# Altium schematic symbol library Apalis Evaluation Board.SchLib: 275 symbols (part 1 of 2)
Pins are listed as number, name and electrical type; pins without a type are passive.

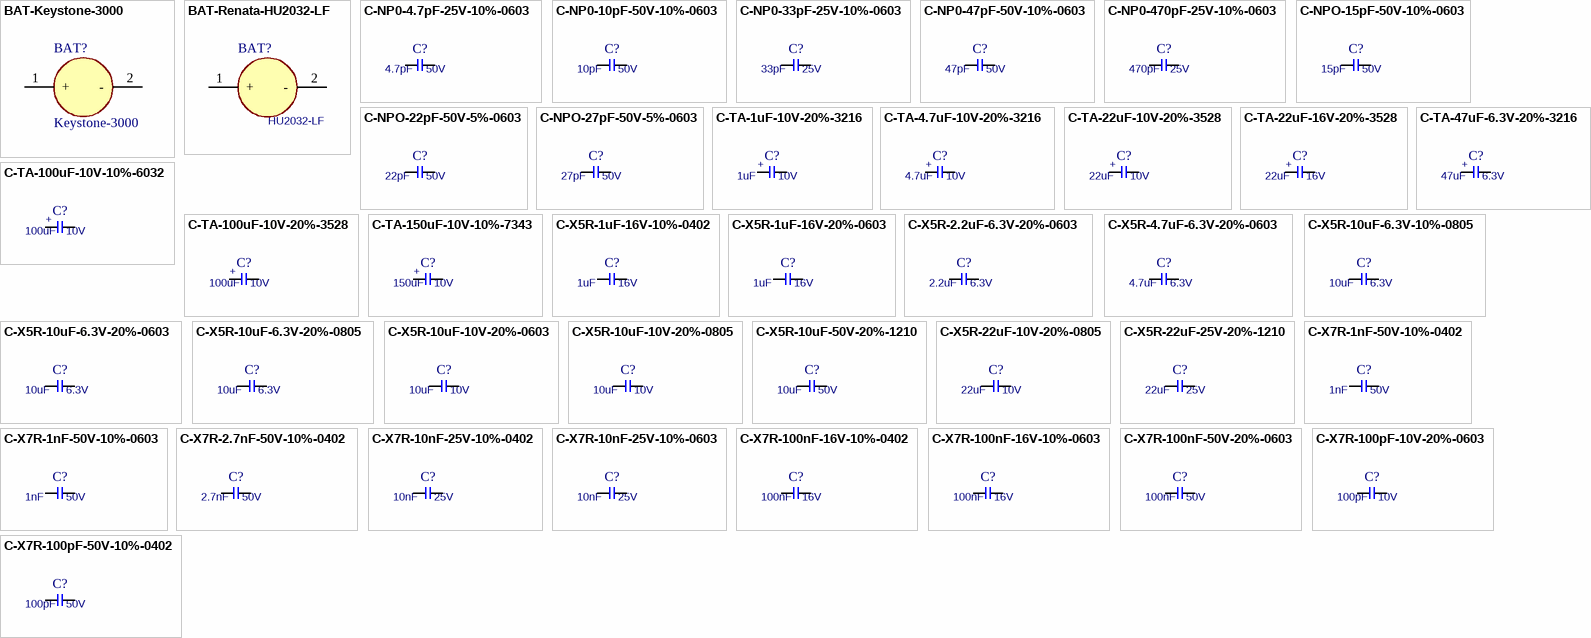
[diagram p0: symbols BAT-Keystone-3000 to C-X7R-100pF-50V-10%-0402]

## BAT-Keystone-3000
designator BAT?, comment Keystone-3000
Battery Holder; Manufacturer Part No.: 3000; Manufacturer Name: Keystone
footprint T_Keystone_3000 (Battery Holder)
pins: 1 +, 2 -

## BAT-Renata-HU2032-LF
designator BAT?, comment HU2032-LF
C2032 Battery Holder; Manufacturer Name: Renata; Manufacturer Part No.: HU2032-LF
footprint T_Renata_HU2032-LF (Battery Holder)
pins: 1 +, 2 -

## C-NP0-4.7pF-25V-10%-0603
designator C?, comment Rating: 50V  (hidden comment: 4.7pF)
Capacitor Ceramic NP0  4.7pF 25V 10% 0603; Tolerance: 10%; Type: NP0; Value: 4.7pF
footprint T_CAPC0603X33N
pins: 1, 2

## C-NP0-10pF-50V-10%-0603
designator C?, comment Rating: 50V  (hidden comment: 10pF)
Capacitor Ceramic NP0 10pF 50V 10% 0603; Tolerance: 10%; Type: NP0; Value: 10pF
footprint T_CAPC0603X33N
pins: 1, 2

## C-NP0-33pF-25V-10%-0603
designator C?, comment Rating: 25V  (hidden comment: 33pF)
Capacitor Ceramic NP0 33pF 25V 10% 0603; Tolerance: 10%; Type: NP0; Value: 33pF
footprint T_CAPC0603X33N
pins: 1, 2

## C-NP0-47pF-50V-10%-0603
designator C?, comment Rating: 50V  (hidden comment: 47pF)
Capacitor Ceramic NP0 47pF 50V 10% 0603; Tolerance: 10%; Type: NP0; Value: 47pF
footprint T_CAPC0603X33N
pins: 1, 2

## C-NP0-470pF-25V-10%-0603
designator C?, comment Rating: 25V  (hidden comment: 470pF)
Capacitor Ceramic NP0 470pF 25V 10% 0603; Tolerance: 10%; Type: NP0; Value: 470pF
footprint T_CAPC0603X33N
pins: 1, 2

## C-NPO-15pF-50V-10%-0603
designator C?, comment Rating: 50V  (hidden comment: 15pF)
Capacitor Ceramic NPO 15pF 50V 10% 0603; Tolerance: 10%; Type: NPO; Value: 15pF
footprint T_CAPC0603X33N
pins: 1, 2

## C-NPO-22pF-50V-5%-0603
designator C?, comment Rating: 50V  (hidden comment: 22pF)
Capacitor Ceramic NPO 22pF 50V 5% 0603; Tolerance: 5%; Type: NPO; Value: 22pF
footprint T_CAPC0603X33N
pins: 1, 2

## C-NPO-27pF-50V-5%-0603
designator C?, comment Rating: 50V  (hidden comment: 27pF)
Capacitor Ceramic NPO 27pF 50V 5% 0603; Tolerance: 5%; Type: NPO; Value: 27pF
footprint T_CAPC0603X33N
pins: 1, 2

## C-TA-1uF-10V-20%-3216
designator C?, comment Rating: 10V  (hidden comment: 1uF)
Capacitor TA 1uF 10V 20% 3216; Tolerance: 20%; Type: TA; Value: 1uF
footprint T_CAPMP3216X180N
pins: 1, 2
text: +

## C-TA-4.7uF-10V-20%-3216
designator C?, comment Rating: 10V  (hidden comment: 4.7uF)
Capacitor TA 4.7uF 10V 20% 3216; Tolerance: 20%; Type: TA; Value: 4.7uF
footprint T_CAPMP3216X180N
pins: 1, 2
text: +

## C-TA-22uF-10V-20%-3528
designator C?, comment Rating: 10V  (hidden comment: 22uF)
Capacitor TA 22uF 10V 20% 3528; Tolerance: 20%; Type: TA; Value: 22uF
footprint CAPMP3528X210N
pins: 1, 2
text: +

## C-TA-22uF-16V-20%-3528
designator C?, comment Rating: 16V  (hidden comment: 22uF)
Capacitor TA 22uF 16V 20% 3528; Tolerance: 20%; Type: TA; Value: 22uF
footprint CAPMP3528X210N
pins: 1, 2
text: +

## C-TA-47uF-6.3V-20%-3216
designator C?, comment Rating: 6.3V  (hidden comment: 47uF)
Capacitor TA 47uF 6.3V 20% 3216; Tolerance: 20%; Type: TA; Value: 47uF
footprint T_CAPMP3216X180N
pins: 1, 2
text: +

## C-TA-100uF-10V-10%-6032
designator C?, comment Rating: 10V  (hidden comment: 100uF)
Capacitor TA 100uF 10V 10% 6032; Tolerance: 10%; Type: TA; Value: 100uF
footprint CAPMP6032X280N (Cap Polarized 6032)
pins: 1, 2
text: +

## C-TA-100uF-10V-20%-3528
designator C?, comment Rating: 10V  (hidden comment: 100uF)
Capacitor TA 100uF 10V 20% 3528; Tolerance: 20%; Type: TA; Value: 100uF
footprint CAPMP3528X210N
pins: 1, 2
text: +

## C-TA-150uF-10V-10%-7343
designator C?, comment Rating: 10V  (hidden comment: 150uF)
Capacitor TA 150uF 10V 10% 7343; Tolerance: 10%; Type: TA; Value: 150uF
footprint CAPMP7343X310N
pins: 1, 2
text: +

## C-X5R-1uF-16V-10%-0402
designator C?, comment Rating: 16V  (hidden comment: 1uF)
Capacitor Ceramic X5R 1uF 16V 10% 0402; Tolerance: 10%; Type: X5R; Value: 1uF
footprint CAPC1005X60N
pins: 1, 2

## C-X5R-1uF-16V-20%-0603
designator C?, comment Rating: 16V  (hidden comment: 1uF)
Capacitor Ceramic X5R 1uF 16V 20% 0603; Tolerance: 20%; Type: X5R; Value: 1uF
footprint T_CAPC0603X33N
pins: 1, 2

## C-X5R-2.2uF-6.3V-20%-0603
designator C?, comment Rating: 6.3V  (hidden comment: 2.2uF)
Capacitor Ceramic X5R 2.2uF 6.3V 20% 0603; Tolerance: 20%; Type: X5R; Value: 2.2uF
footprint T_CAPC0603X33N
pins: 1, 2

## C-X5R-4.7uF-6.3V-20%-0603
designator C?, comment Rating: 6.3V  (hidden comment: 4.7uF)
Capacitor Ceramic X5R 4.7uF 6.3V 20% 0603; Tolerance: 20%; Type: X5R; Value: 4.7uF
footprint T_CAPC0603X33N
pins: 1, 2

## C-X5R-10uF-6.3V-10%-0805
designator C?, comment Rating: 6.3V  (hidden comment: 10uF)
Capacitor Ceramic X5R 10uF 6.3V 10% 0805; Tolerance: 10%; Type: X5R; Value: 10uF
footprint T_CAPC0805X125N
pins: 1, 2

## C-X5R-10uF-6.3V-20%-0603
designator C?, comment Rating: 6.3V  (hidden comment: 10uF)
Capacitor Ceramic X5R 10uF 6.3V 20% 0603; Tolerance: 20%; Type: X5R; Value: 10uF
footprint T_CAPC0603X33N
pins: 1, 2

## C-X5R-10uF-6.3V-20%-0805
designator C?, comment Rating: 6.3V  (hidden comment: 10uF)
Capacitor Ceramic X5R 10uF 6.3V 20% 0805; Tolerance: 20%; Type: X5R; Value: 10uF
footprint T_CAPC0805X125N
pins: 1, 2

## C-X5R-10uF-10V-20%-0603
designator C?, comment Rating: 10V  (hidden comment: 10uF)
Capacitor Ceramic X5R 10uF 10V 20% 0603; Tolerance: 20%; Type: X5R; Value: 10uF
footprint T_CAPC0603X33N
pins: 1, 2

## C-X5R-10uF-10V-20%-0805
designator C?, comment Rating: 10V  (hidden comment: 10uF)
Capacitor Ceramic X5R 10uF 10V 20% 0805; Tolerance: 20%; Type: X5R; Value: 10uF
footprint T_CAPC0805X125N
pins: 1, 2

## C-X5R-10uF-50V-20%-1210
designator C?, comment Rating: 50V  (hidden comment: 10uF)
Capacitor Ceramic X5R 10uF 50V 20% 1210; Tolerance: 20%; Type: X5R; Value: 10uF
footprint CAPC3225X160N
pins: 1, 2

## C-X5R-22uF-10V-20%-0805
designator C?, comment Rating: 10V  (hidden comment: 22uF)
Capacitor Ceramic X5R 22uF 10V 20% 0805; Tolerance: 20%; Type: X5R; Value: 22uF
footprint T_CAPC0805X125N
pins: 1, 2

## C-X5R-22uF-25V-20%-1210
designator C?, comment Rating: 25V  (hidden comment: 22uF)
Capacitor Ceramic X5R 22uF 25V 20% 1210; Tolerance: 20%; Type: X5R; Value: 22uF
footprint CAPC3225X160N
pins: 1, 2

## C-X7R-1nF-50V-10%-0402
designator C?, comment Rating: 50V  (hidden comment: 1nF)
Capacitor Ceramic X7R 1nF 50V 10% 0402; Tolerance: 10%; Type: X7R; Value: 1nF
footprint CAPC1005X60N
pins: 1, 2

## C-X7R-1nF-50V-10%-0603
designator C?, comment Rating: 50V  (hidden comment: 1nF)
Capacitor Ceramic X7R 1nF 50V 10% 0603; Tolerance: 10%; Type: X7R; Value: 1nF
footprint T_CAPC0603X33N
pins: 1, 2

## C-X7R-2.7nF-50V-10%-0402
designator C?, comment Rating: 50V  (hidden comment: 2.7nF)
Capacitor Ceramic X7R 2.7nF 50V 10% 0402; Tolerance: 10%; Type: X7R; Value: 2.7nF
footprint CAPC1005X60N
pins: 1, 2

## C-X7R-10nF-25V-10%-0402
designator C?, comment Rating: 25V  (hidden comment: 10nF)
Capacitor Ceramic X7R 10nF 25V 10% 0402; Tolerance: 10%; Type: X7R; Value: 10nF
footprint CAPC1005X60N
pins: 1, 2

## C-X7R-10nF-25V-10%-0603
designator C?, comment Rating: 25V  (hidden comment: 10nF)
Capacitor Ceramic X7R 10nF 25V 10% 0603; Tolerance: 10%; Type: X7R; Value: 10nF
footprint T_CAPC0603X33N
pins: 1, 2

## C-X7R-100nF-16V-10%-0402
designator C?, comment Rating: 16V  (hidden comment: 100nF)
Capacitor Ceramic X7R 100nF 16V 10% 0402; Tolerance: 10%; Type: X7R; Value: 100nF
footprint CAPC1005X60N
pins: 1, 2

## C-X7R-100nF-16V-10%-0603
designator C?, comment Rating: 16V  (hidden comment: 100nF)
Capacitor Ceramic X7R 100nF 16V 10% 0603; Tolerance: 10%; Type: X7R; Value: 100nF
footprint T_CAPC0603X33N
pins: 1, 2

## C-X7R-100nF-50V-20%-0603
designator C?, comment Rating: 50V  (hidden comment: 100nF)
Capacitor Ceramic X7R 100nF 50V 20% 0603; Tolerance: 20%; Type: X7R; Value: 100nF
footprint T_CAPC0603X33N
pins: 1, 2

## C-X7R-100pF-10V-20%-0603
designator C?, comment Rating: 10V  (hidden comment: 100pF)
Capacitor Ceramic X7R 100pF 10V 20% 0603; Tolerance: 20%; Type: X7R; Value: 100pF
footprint T_CAPC0603X33N
pins: 1, 2

## C-X7R-100pF-50V-10%-0402
designator C?, comment Rating: 50V  (hidden comment: 100pF)
Capacitor Ceramic X7R 100pF 50V 10% 0402; Tolerance: 10%; Type: X7R; Value: 100pF
footprint CAPC1005X60N
pins: 1, 2

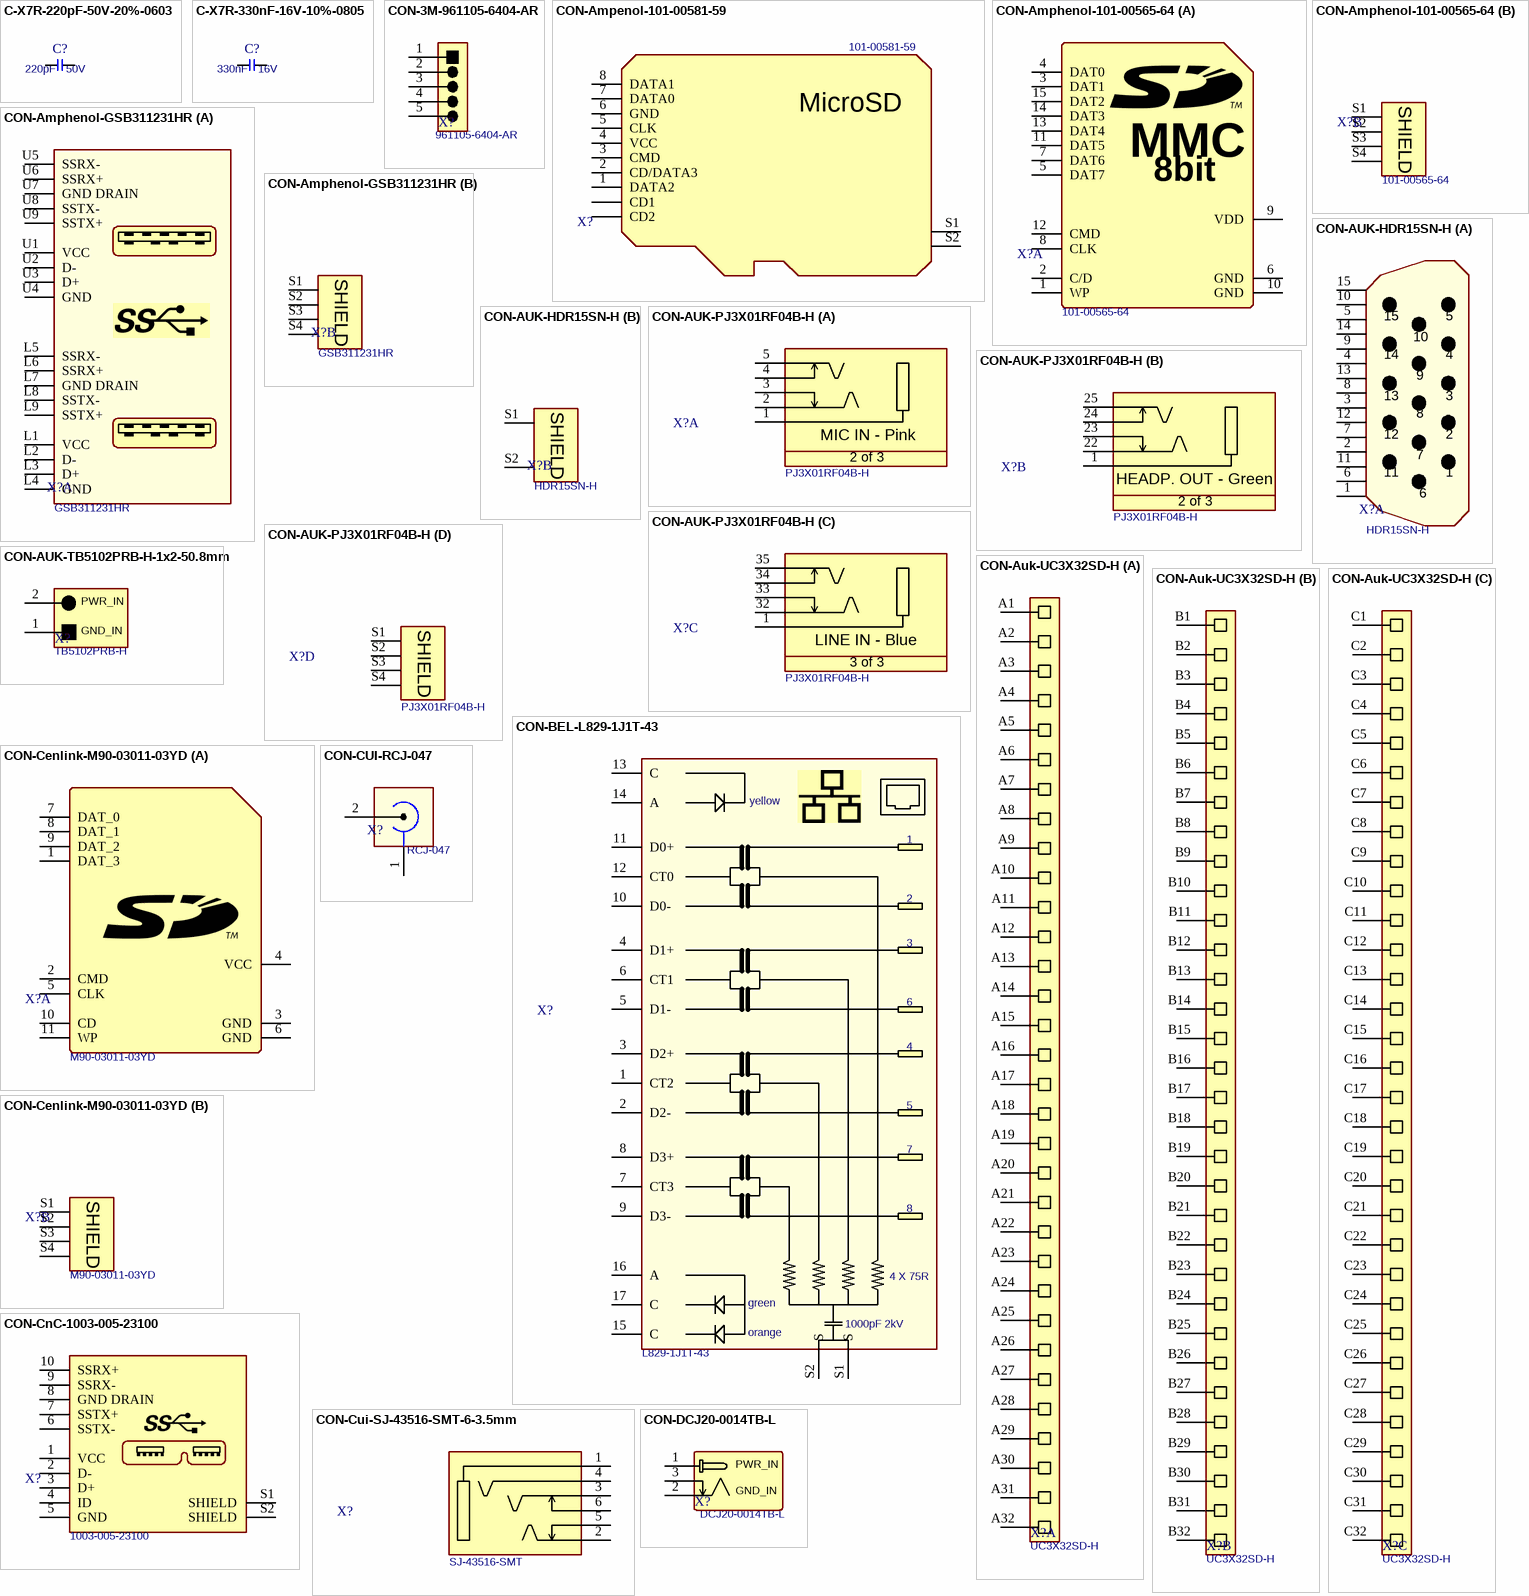
[diagram p1: symbols C-X7R-220pF-50V-20%-0603 to CON-DCJ20-0014TB-L]

## C-X7R-220pF-50V-20%-0603
designator C?, comment Rating: 50V  (hidden comment: 220pF)
Capacitor Ceramic X7R 220pF 50V 20% 0603; Tolerance: 20%; Type: X7R; Value: 220pF
footprint T_CAPC0603X33N
pins: 1, 2

## C-X7R-330nF-16V-10%-0805
designator C?, comment Rating: 16V  (hidden comment: 330nF)
Capacitor Ceramic X7R 330nF 16V 10% 0805; Tolerance: 10%; Type: X7R; Value: 330nF
footprint T_CAPC0805X125N
pins: 1, 2

## CON-3M-961105-6404-AR
designator X?, comment 961105-6404-AR
Audio Header 5 pins 2.54mm; Manufacturer Name: 3M; No. of ways: 1X5; Pitch: 2.54mm; Manufacturer Part No.: 961105-6404-AR
footprint T_3M_961105-6404-AR (Connector; Header; 35 Position)
pins: 1, 2, 3, 4, 5

## CON-Ampenol-101-00581-59
designator X?, comment Manufacturer Part No.: 101-00581-59  (hidden comment: MicroSD Holder)
Micro SD Holder Push Push CD; Manufacturer Name: Ampenol; No. of ways: 9
footprint T_Ampenol_101-00581-59 (MicroSD Holder top-loading type)
pins: 1 DATA2 (power), 2 CD/DATA3, 3 CMD, 4 VCC, 5 CLK (power), 6 GND (power), 7 DATA0 (power), 8 DATA1 (power), CD1 (power), CD2 (power), S1 S, S2 S
text: MicroSD

## CON-Amphenol-101-00565-64
designator X?, comment 101-00565-64
SD/MMC 8bit Card Holder; Manufacturer Name: Amphenol; No. of ways: 13+2; Manufacturer Part No.: 101-00565-64
footprint T_ AMPHENOL_101-00565 (SD/MMC 8bit Card Holder)
part A pins: 1 WP, 2 C/D, 3 DAT1, 4 DAT0, 5 DAT7, 6 GND, 7 DAT6, 8 CLK, 9 VDD, 10 GND, 11 DAT5, 12 CMD, 13 DAT4, 14 DAT3, 15 DAT2
part B pins: S1 S, S2 S, S3 S, S4 S
part A text: MMC; 8bit
part B text: SHIELD

## CON-Amphenol-GSB311231HR
designator X?, comment GSB311231HR
USB 3.0 double row, Type A; Manufacturer Name: Amphenol; No. of ways: 18; Manufacturer Part No.: GSB311231HR
footprint T_AMPHENOL_ GSB311231HR (USB 3.0 double row, Type A)
part A pins: L1 VCC (power), L2 D-, L3 D+, L4 GND (power), L5 SSRX- (power), L6 SSRX+ (power), L7 GND DRAIN (power), L8 SSTX- (power), L9 SSTX+ (power), U1 VCC (power), U2 D-, U3 D+, U4 GND (power), U5 SSRX- (power), U6 SSRX+ (power), U7 GND DRAIN (power), U8 SSTX- (power), U9 SSTX+ (power)
part B pins: S1 SHIELD, S2 SHIELD, S3 SHIELD, S4 SHIELD

## CON-AUK-HDR15SN-H
designator X?, comment HDR15SN-H
15 pin male D-SUB connector; Manufacturer Name: AUK; No. of ways: 15; Manufacturer Part No.: HDR15SN-H
footprint T_AUK_HDR15SN-H (15 pin male D-SUB connector)
part A pins: 1 DCD, 2 RXD, 3 TXD, 4 DTR, 5 GND, 6 DSR, 7 RTS, 8 CTS, 9 RI, 10 RI, 11 RI, 12 RI, 13 RI, 14 RI, 15 RI
part B pins: S1 SHIELD, S2 SHIELD

## CON-AUK-PJ3X01RF04B-H
designator X?, comment Manufacturer Part No.: PJ3X01RF04B-H  (hidden comment: AUK-PJ3X01RF04B-H)
3x Audiojack stereo, 3.5mm; Manufacturer Name: AUK; No. of ways: 13
footprint T_AUK_PJ3X01RF04B-H (Audio Jack Triple Stacked DIP Type)
part A pins: 1, 2, 3, 4, 5
part B pins: 1, 22, 23, 24, 25
part C pins: 1, 32, 33, 34, 35
part D pins: S1 SHIELD, S2 SHIELD, S3 SHIELD, S4 SHIELD
part A text: MIC IN - Pink; 2 of 3
part B text: HEADP. OUT - Green; 2 of 3
part C text: LINE IN - Blue; 3 of 3

## CON-AUK-TB5102PRB-H-1x2-50.8mm
designator X?, comment TB5102PRB-H
Power Connector; Manufacturer Name: AUK; No. of ways: 1x2; Pitch: 5.08mm; Manufacturer Part No.: TB5102PRB-H
footprint T_AUK_TB5102PRB-H (Power Connector 5.08mm pitch)
pins: 1 GND_IN, 2 PWR_IN

## CON-Auk-UC3X32SD-H
designator X?, comment UC3X32SD-H
Header Female 3x32 pin 2.54mm; Manufacturer Name: Auk; Pitch: 2.54mm; No. of ways: 3x32; Manufacturer Part No.: UC3X32SD-H
footprint T_AUK_UC3X32SD-H (Header, 3x32 Pins, 2.54 mm pitch)
part A pins: A1, A2, A3, A4, A5, A6, A7, A8, A9, A10, A11, A12, A13, A14, A15, A16, A17, A18, A19, A20, A21, A22, A23, A24, A25, A26, A27, A28, A29, A30, A31, A32
part B pins: B1, B2, B3, B4, B5, B6, B7, B8, B9, B10, B11, B12, B13, B14, B15, B16, B17, B18, B19, B20, B21, B22, B23, B24, B25, B26, B27, B28, B29, B30, B31, B32
part C pins: C1, C2, C3, C4, C5, C6, C7, C8, C9, C10, C11, C12, C13, C14, C15, C16, C17, C18, C19, C20, C21, C22, C23, C24, C25, C26, C27, C28, C29, C30, C31, C32

## CON-BEL-L829-1J1T-43
designator X?, comment L829-1J1T-43
Low profile 10/100/1G Mag Jack; Manufacturer Name: BEL; Manufacturer Part No.: L829-1J1T-43
footprint T_BEL_L829-1J1T-43 (LOW PROFILE GIGABIT ETHERNET JACK WITH MAGS)
3D model l829-1j1t-43 (PCB3D Model)
pins: 1 CT2, 2 D2-, 3 D2+, 4 D1+, 5 D1-, 6 CT1, 7 CT3, 8 D3+, 9 D3-, 10 D0-, 11 D0+, 12 CT0, 13 C, 14 A, 15 C, 16 A, 17 C, S1 S, S2 S
text: yellow; 4 X 75R; green; 1000pF 2kV; orange

## CON-Cenlink-M90-03011-03YD
designator X?, comment M90-03011-03YD
SD/MMC Card Holder; Manufacturer Name: Cenlink; No. of ways: 9+2; Manufacturer Part No.: M90-03011-03YD
footprint T_ AMPHENOL_101-00708-64 (SD/MMC Card Holder)
part A pins: 1 DAT_3 (power), 2 CMD, 3 GND, 4 VCC, 5 CLK (power), 6 GND (power), 7 DAT_0 (power), 8 DAT_1 (power), 9 DAT_2 (power), 10 CD (power), 11 WP (power)
part B pins: S1 S, S2 S, S3 S, S4 S
part B text: SHIELD

## CON-CnC-1003-005-23100
designator X?, comment 1003-005-23100
Micro USB AB 3.0 Connector; Manufacturer Name: CnC Tech.; No. of ways: 10; Manufacturer Part No.: 1003-005-23100
footprint T_Cnc_1003-005-23100 (USB Micro A/B 3.0)
pins: 1 VCC (power), 2 D-, 3 D+, 4 ID, 5 GND (power), 6 SSTX- (power), 7 SSTX+ (power), 8 GND DRAIN (power), 9 SSRX- (power), 10 SSRX+ (power), S1 SHIELD (power), S2 SHIELD (power)

## CON-CUI-RCJ-047
designator X?, comment RCJ-047
THT RCA Right Angle Connector Orange; Manufacturer: CUI; Manufacturer Part No.: RCJ-047
footprint T_CUI_RCJ-04x (Right Angle RCA Connector THT)
pins: 1 SIGNAL, 2

## CON-Cui-SJ-43516-SMT-6-3.5mm
designator X?, comment SJ-43516-SMT
3.5mm Stereo Jack SMD With Detect Contact; Manufacturer Name: Cui INC; No. of ways: 6; Manufacturer Part No.: SJ-43516-SMT
footprint T_CI_SJ-43516-SMT (STEREO_3.5mm AUDIO JACK  CUI)
pins: 1, 2, 3, 4, 5, 6

## CON-DCJ20-0014TB-L
designator X?, comment DCJ20-0014TB-L
Power Jack; Manufacturer Part No.: DCJ20-0014TB-L
footprint T_DCJ20-0014TB-L (Header, 1x2 Pins, 2.54 mm pitch, male)
pins: 1 GND_IN, 2 PWR_IN, 3 PWR_IN

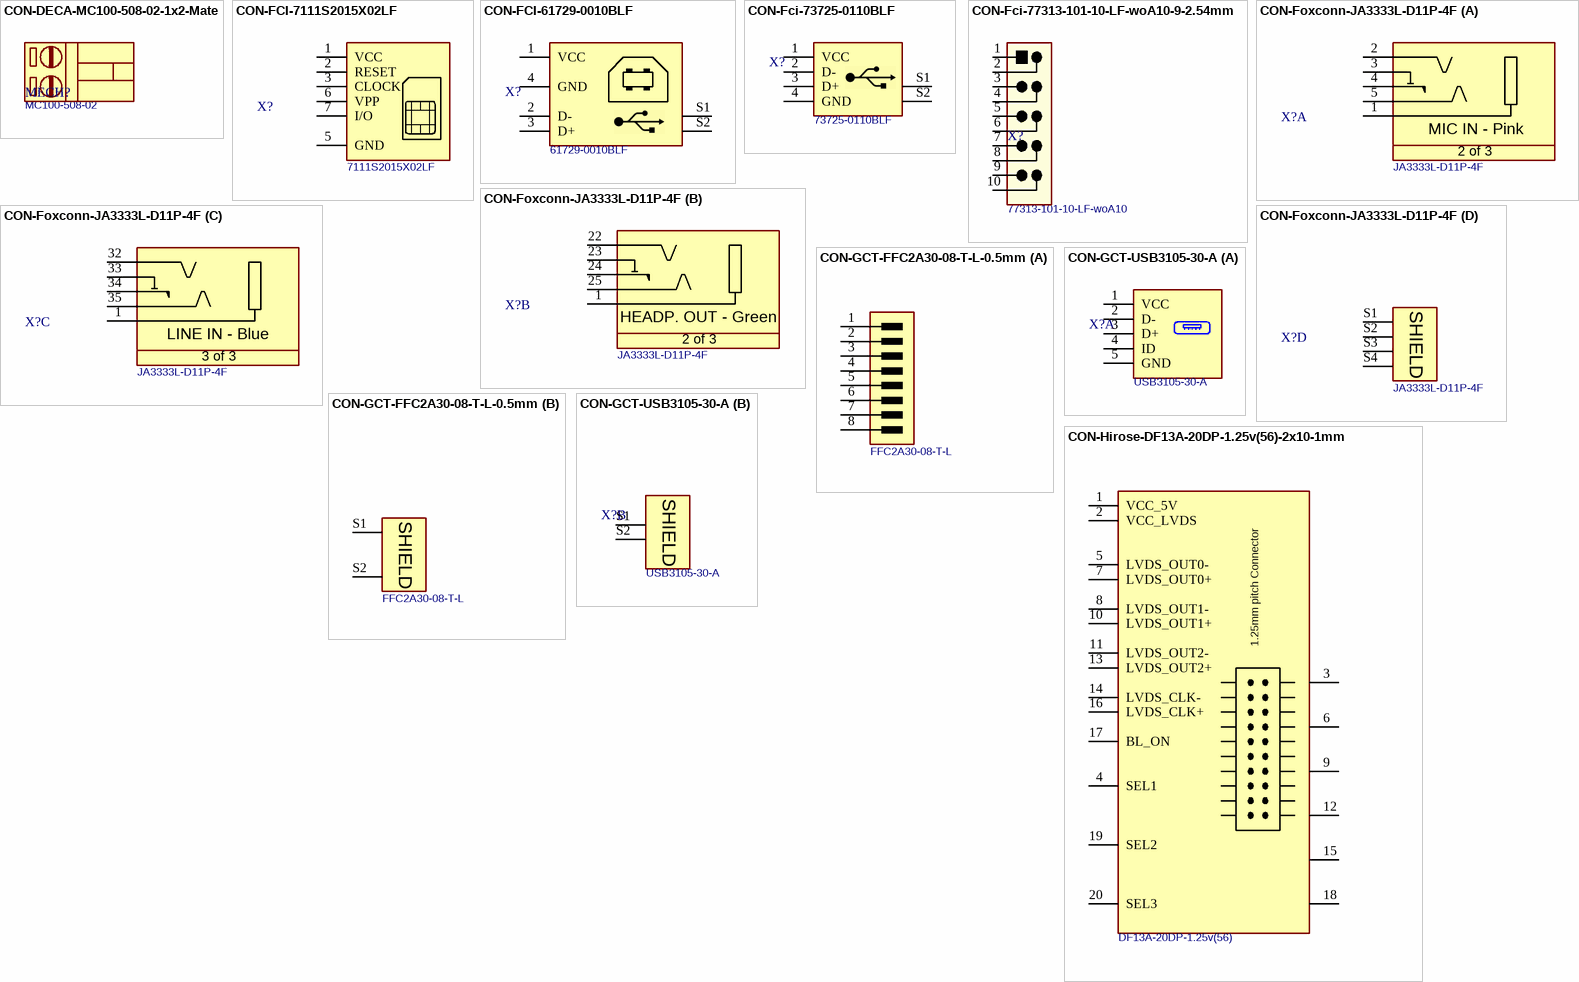
[diagram p2: symbols CON-DECA-MC100-508-02-1x2-Mate to CON-Hirose-DF13A-20DP-1.25v(56)-2x10-1mm]

## CON-DECA-MC100-508-02-1x2-Mate
designator MECH?, comment MC100-508-02
Power Connector Mate; Manufacturer Name: DECA Switchlab; No. of ways: 1x2; Pitch: 5.08mm; Manufacturer Part No.: MC100-508-02

## CON-FCI-7111S2015X02LF
designator X?, comment 7111S2015X02LF
6 Contacts Sim Card Holder; Manufacturer Name: FCI; Part No.: 7111S2015X02LF
footprint T_FCI_7111S2015X02LF (Footprint not found)
pins: 1 VCC, 2 RESET, 3 CLOCK, 5 GND, 6 VPP, 7 I/O

## CON-FCI-61729-0010BLF
designator X?, comment 61729-0010BLF
USB Type B Connector; Manufacturer Name: FCI; No. of ways: 4; Manufacturer Part No.: 61729-0010BLF
footprint T_FCI_61729-0010BLF (USB Type B Connectors)
pins: 1 VCC (power), 2 D-, 3 D+, 4 GND (power), S1, S2

## CON-Fci-73725-0110BLF
designator X?  Manufacturer Part No.: 73725-0110BLF
USB Type A Connector; Manufacturer Name: FCI; No. of ways: 4
footprint T_FCI_73725-0110BLF (USB Type A Connector Vertical)
pins: 1 VCC (power), 2 D-, 3 D+, 4 GND (power), S1, S2

## CON-Fci-77313-101-10-LF-woA10-9-2.54mm
designator X?, comment 77313-101-10-LF-woA10
RS232 Header; Manufacturer Name: FCI; No. of ways: 9; Manufacturer Part No.: 77313-101-10-LF-woA10
footprint T_FCI_77313-101-10-LF-woA10 (2.54 mm header)
pins: 1, 2, 3, 4, 5, 6, 7, 8, 9, 10

## CON-Foxconn-JA3333L-D11P-4F
designator X?, comment JA3333L-D11P-4F
3x Audiojack stereo, 3.5mm with sense; Manufacturer Name: Foxconn; No. of ways: 13; Manufacturer Part No.: JA3333L-D11P-4F
footprint T_FOXCONN_JA3333L-D11P-4F (Audio Jack Triple Stacked DIP Type With Sense)
part A pins: 1, 2, 3, 4, 5
part B pins: 1, 22, 23, 24, 25
part C pins: 1, 32, 33, 34, 35
part D pins: S1 SHIELD, S2 SHIELD, S3 SHIELD, S4 SHIELD
part A text: MIC IN - Pink; 2 of 3
part B text: HEADP. OUT - Green; 2 of 3
part C text: LINE IN - Blue; 3 of 3

## CON-GCT-FFC2A30-08-T-L-0.5mm
designator X?, comment FFC2A30-08-T-L
0.50mm Pitch FFC/FPC JTAG Connector Vertical; Manufacturer Name: GCT; No. of ways: 8; Pitch: 0.5mm; Manufacturer Part No.: FFC2A30-08-T-L
footprint T_GCT_FFC2A30-08-T-L (JTAG FFC Connector 0.5mm pitch vertical)
part A pins: 1, 2, 3, 4, 5, 6, 7, 8
part B pins: S1 SHIELD, S2 SHIELD

## CON-GCT-USB3105-30-A
designator X?  Manufacturer Part No.: USB3105-30-A
Micro USB OTG Connector - TH - Vertical; Manufacturer Name: GCT; No. of ways: 5
footprint T_GCT_USB3105-30-A (Micro USB Connector Vertical)
part A pins: 1 VCC (power), 2 D-, 3 D+, 4 ID, 5 GND (power)
part B pins: S1 SHIELD, S2 SHIELD

## CON-Hirose-DF13A-20DP-1.25v(56)-2x10-1mm
designator X?  Manufacturer Part No.: DF13A-20DP-1.25v(56)  (hidden comment: CON-Hirose-DF13A-20DP-1.25v(56)-2x10-1mm)
LVDS Connector; Manufacturer Name: Hirose; No. of ways: 2x10; Pitch: 1mm
footprint T_HIROSE_DF13A-20DP-1.25V(56)
pins: 1 VCC_5V, 2 VCC_LVDS, 3 GND, 4 SEL1, 5 LVDS_OUT0-, 6 GND, 7 LVDS_OUT0+, 8 LVDS_OUT1-, 9 GND, 10 LVDS_OUT1+, 11 LVDS_OUT2-, 12 GND, 13 LVDS_OUT2+, 14 LVDS_CLK-, 15 GND, 16 LVDS_CLK+, 17 BL_ON, 18 GND, 19 SEL2, 20 SEL3
text: 1.25mm pitch Connector

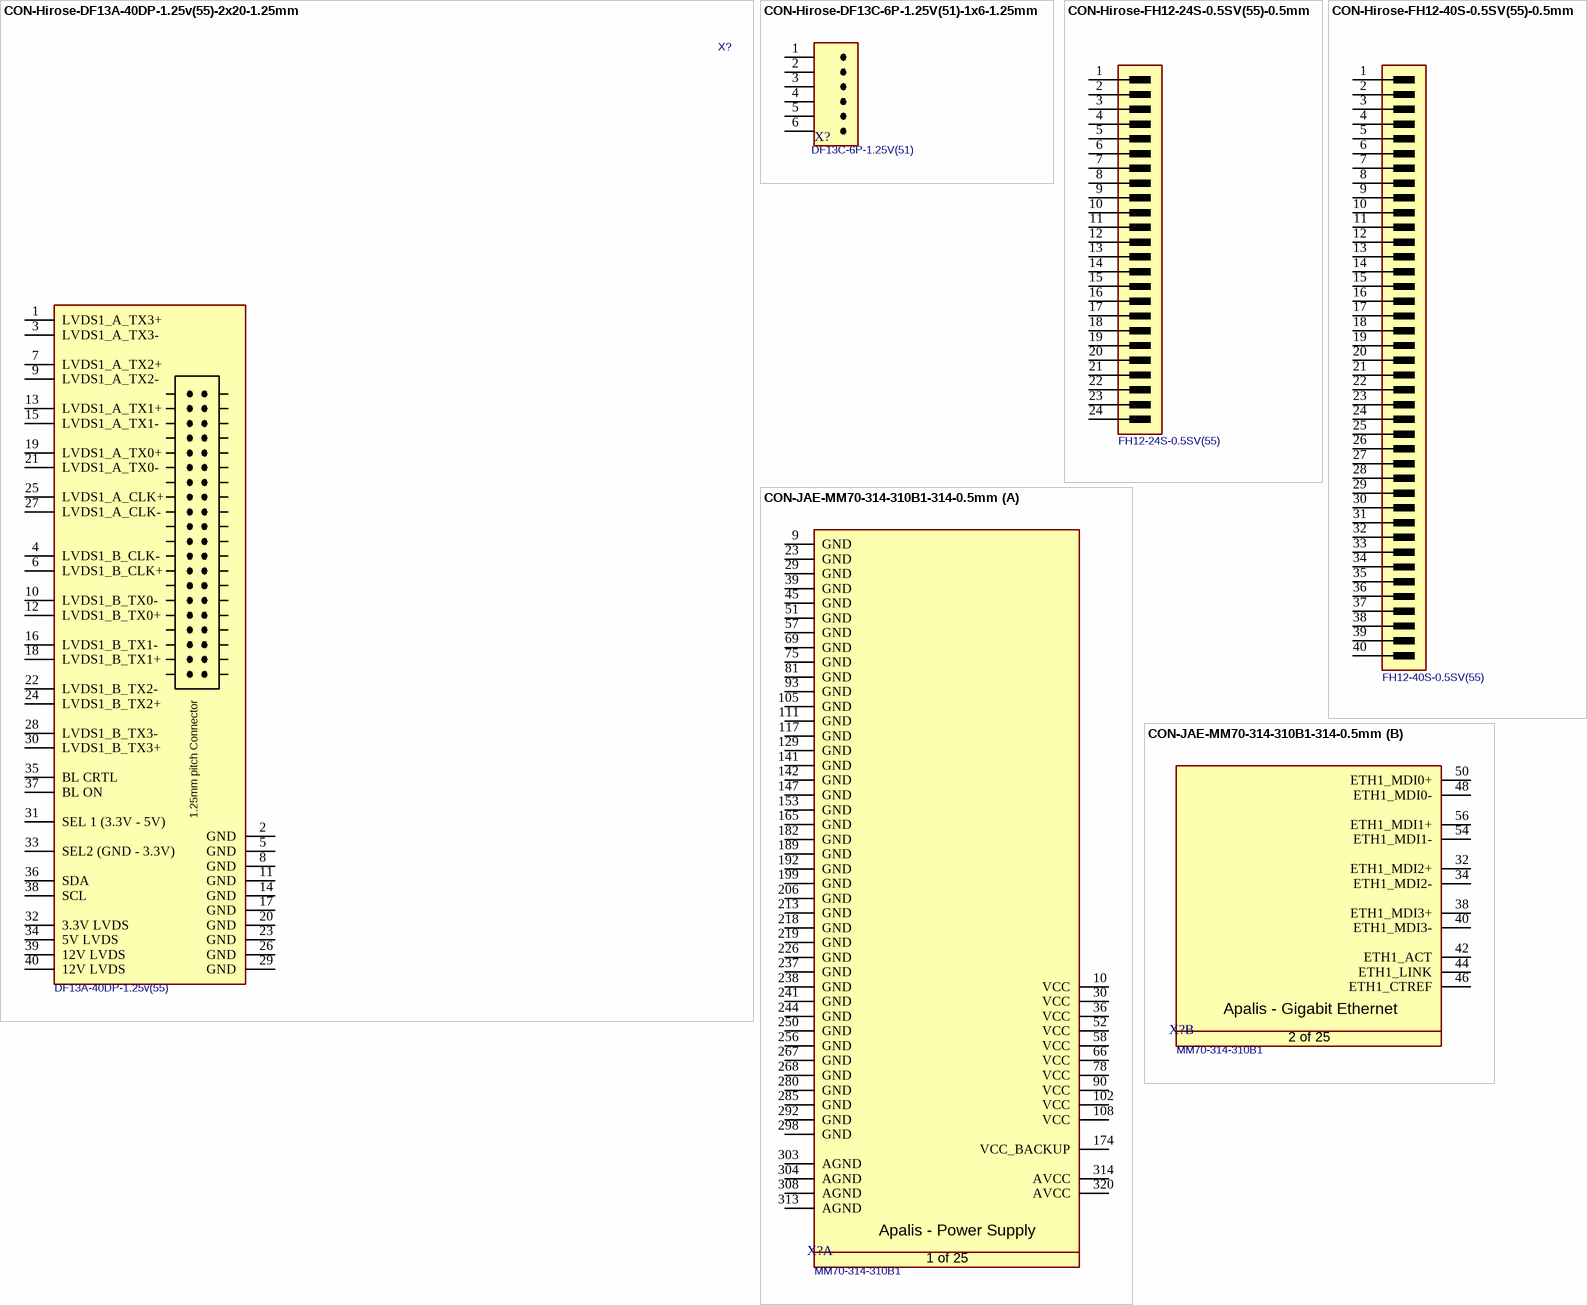
[diagram p3: symbols CON-Hirose-DF13A-40DP-1.25v(55)-2x20-1.25mm to CON-JAE-MM70-314-310B1-314-0.5mm]

## CON-Hirose-DF13A-40DP-1.25v(55)-2x20-1.25mm
designator X?, comment Manufacturer Part No.: DF13A-40DP-1.25v(55)  (hidden comment: CON-Hirose-DF13A-40DP-1.25v(55)-2x10-1mm)
LVDS Connector; Manufacturer Name: Hirose; No. of ways: 2x20; Pitch: 1.25mm
footprint T_HIROSE_DF13A-40DP-1.25V(55)
pins: 1 LVDS1_A_TX3+, 2 GND, 3 LVDS1_A_TX3-, 4 LVDS1_B_CLK-, 5 GND, 6 LVDS1_B_CLK+, 7 LVDS1_A_TX2+, 8 GND, 9 LVDS1_A_TX2-, 10 LVDS1_B_TX0-, 11 GND, 12 LVDS1_B_TX0+, 13 LVDS1_A_TX1+, 14 GND, 15 LVDS1_A_TX1-, 16 LVDS1_B_TX1-, 17 GND, 18 LVDS1_B_TX1+, 19 LVDS1_A_TX0+, 20 GND, 21 LVDS1_A_TX0-, 22 LVDS1_B_TX2-, 23 GND, 24 LVDS1_B_TX2+, 25 LVDS1_A_CLK+, 26 GND, 27 LVDS1_A_CLK-, 28 LVDS1_B_TX3-, 29 GND, 30 LVDS1_B_TX3+, 31 SEL 1 (3.3V - 5V), 32 3.3V LVDS, 33 SEL2 (GND - 3.3V), 34 5V LVDS, 35 BL CRTL, 36 SDA, 37 BL ON, 38 SCL, 39 12V LVDS, 40 12V LVDS
text: 1.25mm pitch Connector

## CON-Hirose-DF13C-6P-1.25V(51)-1x6-1.25mm
designator X?, comment DF13C-6P-1.25V(51)
Touch Connector; Manufacturer Name: Hirose; No. of ways: 1X6; Pitch: 1.25mm; Manufacturer Part No.: DF13C-6P-1.25V(51)
footprint T_HIROSE_DF13C-6P-1.25V(51) (Touch connector)
pins: 1 GND, 2 TSMY, 3 TSPY, 4 TSMX, 5 TSPX, 6 WIPER

## CON-Hirose-FH12-24S-0.5SV(55)-0.5mm
designator X?, comment FH12-24S-0.5SV(55)
0.50mm Pitch FFC/FPC Vertical DVI Connector; Manufacturer Name: Hirose; No. of ways: 24; Pitch: 0.5mm; Manufacturer Part No.: FH12-24S-0.5SV(55)
footprint T_Hirose_FH12-24S-0.5SV(55) (FFC Connector 0.5mm pitch Vertical)
pins: 1 GND, 2 TMDS_CLK_P, 3 TMDS_CLK_N, 4 GND, 5 TMDS_DATA0_P, 6 TMDS_DATA0_N, 7 GND, 8 TMDS_DATA1_P, 9 TMDS_DATA1_N, 10 GND, 11 TMDS_DATA2_P, 12 TMDS_DATA2_N, 13 VDD, 14 HOTPLUG_DETECT, 15 DDC_CLK, 16 DDC_DATA, 17 GND, 18 CRT_RED, 19 GND, 20 CRT_GREEN, 21 GND, 22 CRT_BLUE, 23 CRT_VSYNC, 24 CRT_HSYNC

## CON-Hirose-FH12-40S-0.5SV(55)-0.5mm
designator X?, comment FH12-40S-0.5SV(55)
0.50mm Pitch FFC/FPC Vertical RGB connector; Manufacturer Name: Hirose; No. of ways: 24; Pitch: 0.5mm; Manufacturer Part No.: FH12-40S-0.5SV(55)
footprint T_Hirose_FH12-40S-0.5SV(55) (FFC Connector 0.5mm pitch Vertical)
pins: 1 VSS (power), 2 VSS (power), 3 VCC (power), 4 VCC (power), 5 PWCTRL, 6 LEDCTRL, 7 RESET#, 8 B5, 9 B4, 10 B3, 11 B2, 12 B1, 13 B0, 14 VSS, 15 G5, 16 G4, 17 G3, 18 G2, 19 G1, 20 G0, 21 VSS, 22 R5, 23 R4, 24 R3, 25 R2, 26 R1, 27 R0, 28 DCLK, 29 VSS, 30 HSYNC, 31 VSYNC, 32 ENB, 33 NC, 34 SHUT, 35 VSS, 36 VDD, 37 YU, 38 XR, 39 YD, 40 XL

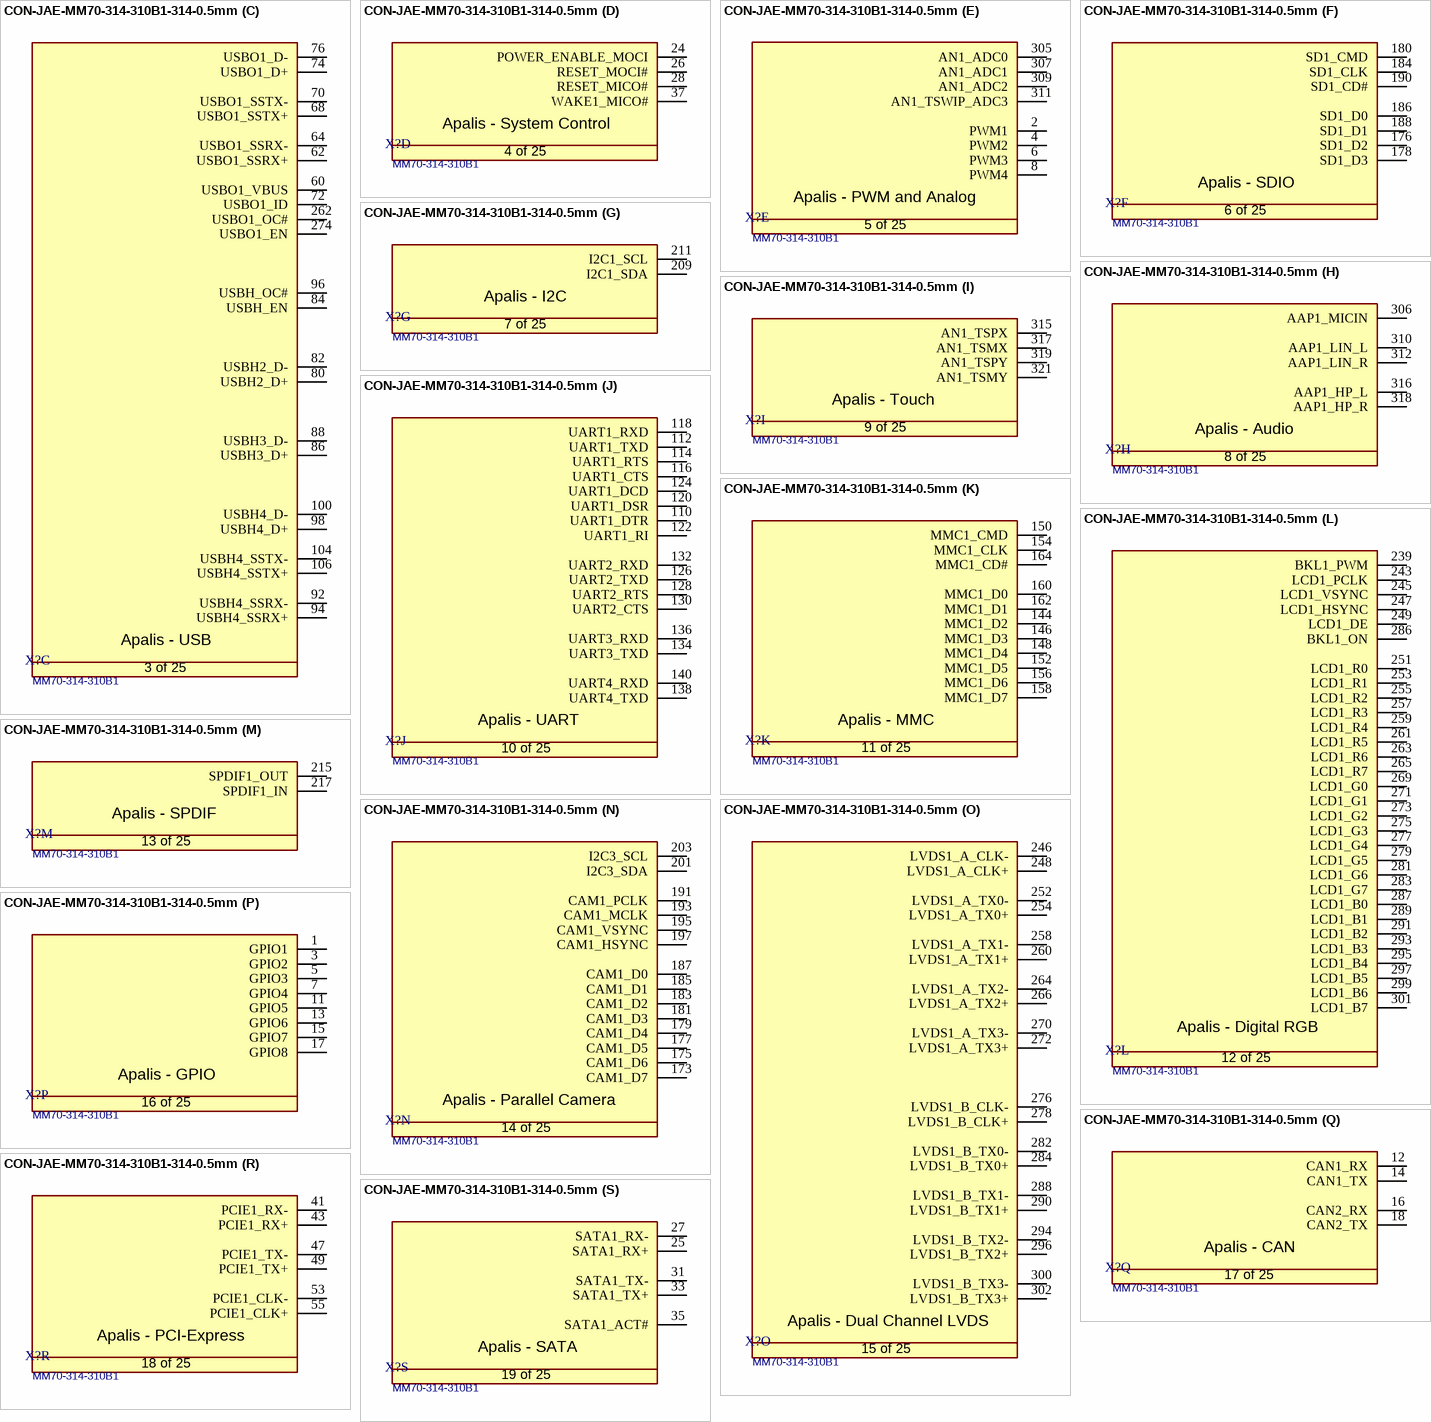
[diagram p4: symbol CON-JAE-MM70-314-310B1-314-0.5mm]

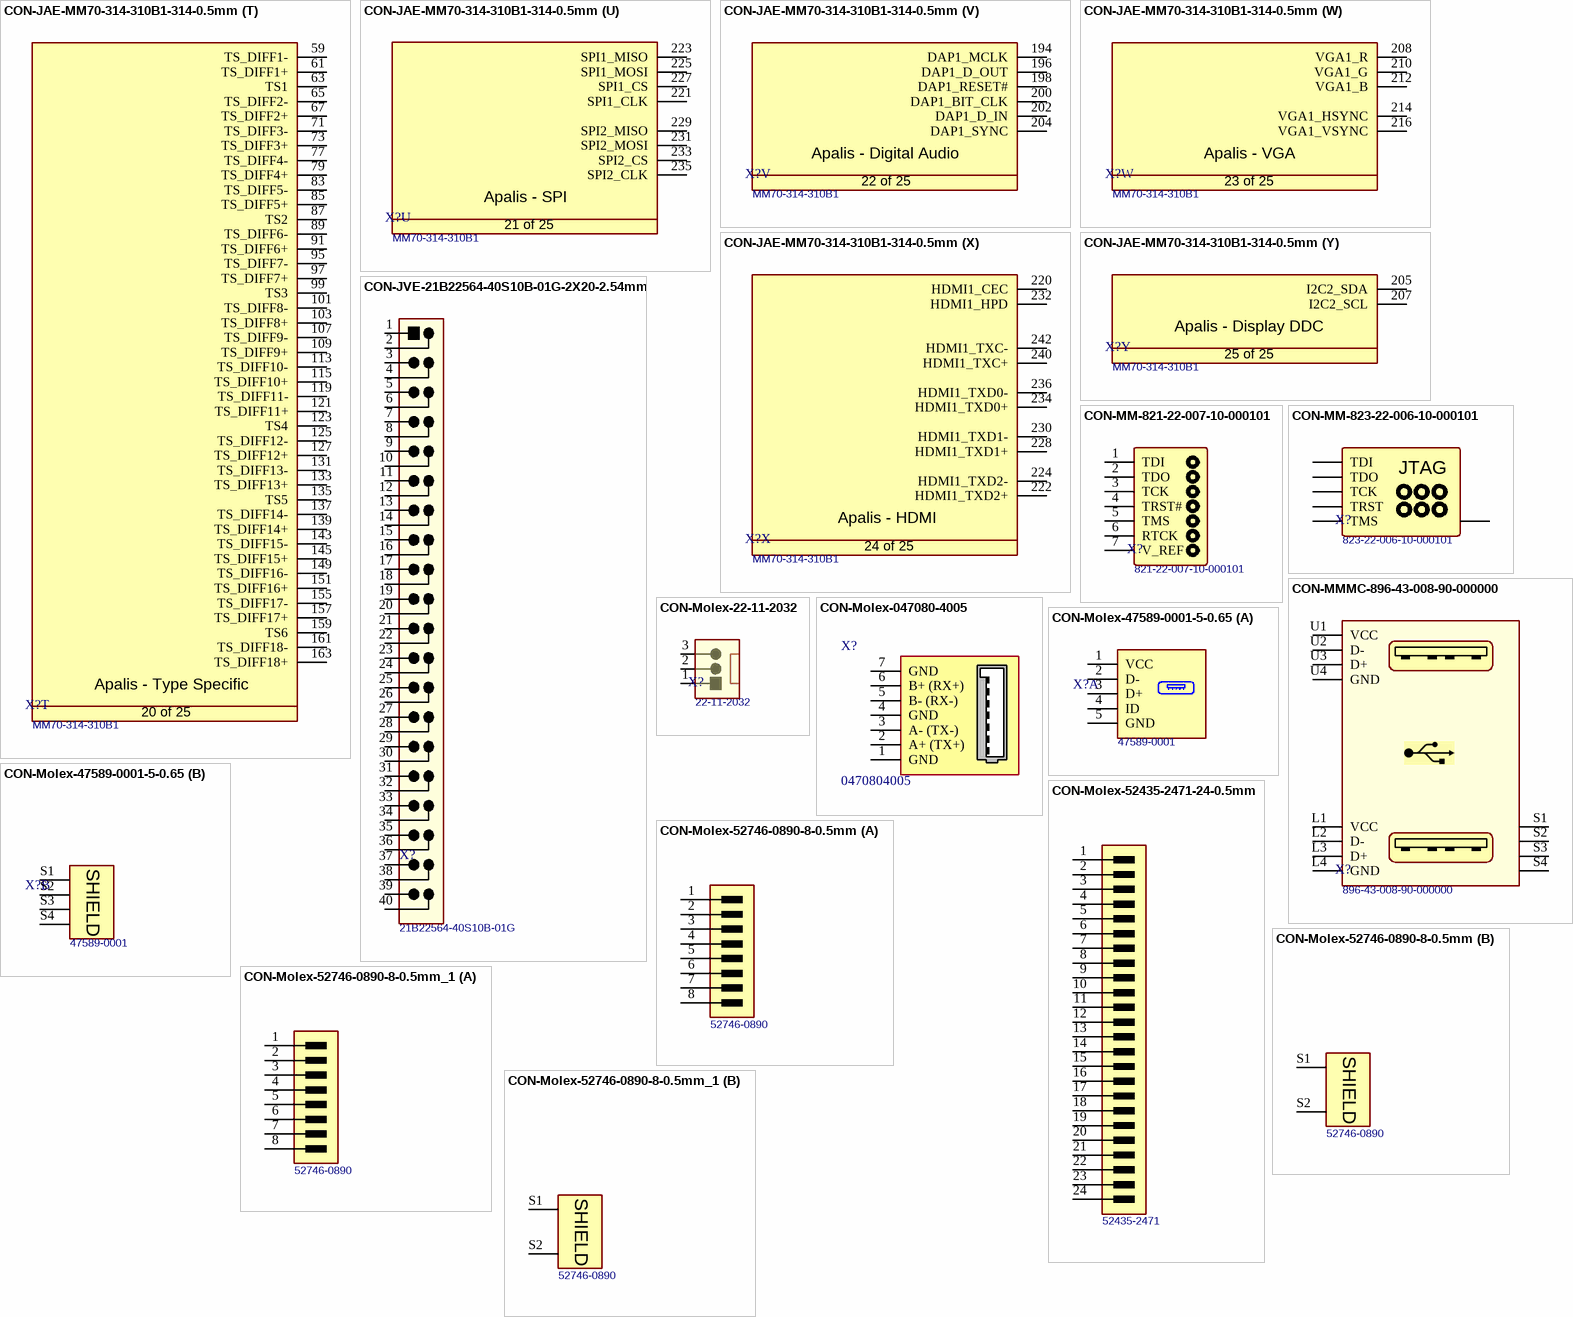
[diagram p5: symbols CON-JAE-MM70-314-310B1-314-0.5mm to CON-Molex-52746-0890-8-0.5mm_1]

## CON-JAE-MM70-314-310B1-314-0.5mm
designator X?  Manufacturer Part No.: MM70-314-310B1  (hidden comment: CON-JAE-MM70-314-310B1-314-0.5mm)
MXM3 Connector; Manufacturer Name: JAE; No. of ways: 314
footprint T_JAE_MM70-314-310B1 (MXM 3.0 Connector)
part A pins: 9 GND, 10 VCC, 23 GND, 29 GND (power), 30 VCC, 36 VCC, 39 GND (power), 45 GND (power), 51 GND (power), 52 VCC, 57 GND (power), 58 VCC, 66 VCC, 69 GND (power), 75 GND (power), 78 VCC, 81 GND (power), 90 VCC, 93 GND (power), 102 VCC, 105 GND (power), 108 VCC, 111 GND (power), 117 GND (power), 129 GND (power), 141 GND (power), 142 GND (power), 147 GND (power), 153 GND (power), 165 GND (power), 174 VCC_BACKUP, 182 GND (power), 189 GND (power), 192 GND (power), 199 GND (power), 206 GND (power), 213 GND (power), 218 GND (power), 219 GND (power), 226 GND (power), 237 GND (power), 238 GND (power), 241 GND (power), 244 GND (power), 250 GND (power), 256 GND (power), 267 GND (power), 268 GND (power), 280 GND (power), 285 GND (power), 292 GND (power), 298 GND (power), 303 AGND (power), 304 AGND (power), 308 AGND (power), 313 AGND, 314 AVCC (power), 320 AVCC
part B pins: 32 ETH1_MDI2+, 34 ETH1_MDI2-, 38 ETH1_MDI3+, 40 ETH1_MDI3-, 42 ETH1_ACT, 44 ETH1_LINK, 46 ETH1_CTREF, 48 ETH1_MDI0-, 50 ETH1_MDI0+, 54 ETH1_MDI1-, 56 ETH1_MDI1+
part C pins: 60 USBO1_VBUS, 62 USBO1_SSRX+, 64 USBO1_SSRX-, 68 USBO1_SSTX+, 70 USBO1_SSTX-, 72 USBO1_ID, 74 USBO1_D+, 76 USBO1_D-, 80 USBH2_D+, 82 USBH2_D-, 84 USBH_EN, 86 USBH3_D+, 88 USBH3_D-, 92 USBH4_SSRX-, 94 USBH4_SSRX+, 96 USBH_OC#, 98 USBH4_D+, 100 USBH4_D-, 104 USBH4_SSTX-, 106 USBH4_SSTX+, 262 USBO1_OC#, 274 USBO1_EN
part D pins: 24 POWER_ENABLE_MOCI, 26 RESET_MOCI#, 28 RESET_MICO#, 37 WAKE1_MICO#
part E pins: 2 PWM1, 4 PWM2, 6 PWM3, 8 PWM4, 305 AN1_ADC0, 307 AN1_ADC1, 309 AN1_ADC2, 311 AN1_TSWIP_ADC3
part F pins: 176 SD1_D2, 178 SD1_D3, 180 SD1_CMD, 184 SD1_CLK, 186 SD1_D0, 188 SD1_D1, 190 SD1_CD#
part G pins: 209 I2C1_SDA, 211 I2C1_SCL
part H pins: 306 AAP1_MICIN, 310 AAP1_LIN_L, 312 AAP1_LIN_R, 316 AAP1_HP_L, 318 AAP1_HP_R
part I pins: 315 AN1_TSPX, 317 AN1_TSMX, 319 AN1_TSPY, 321 AN1_TSMY
part J pins: 110 UART1_DTR, 112 UART1_TXD, 114 UART1_RTS, 116 UART1_CTS, 118 UART1_RXD, 120 UART1_DSR, 122 UART1_RI, 124 UART1_DCD, 126 UART2_TXD, 128 UART2_RTS, 130 UART2_CTS, 132 UART2_RXD, 134 UART3_TXD, 136 UART3_RXD, 138 UART4_TXD, 140 UART4_RXD
part K pins: 144 MMC1_D2, 146 MMC1_D3, 148 MMC1_D4, 150 MMC1_CMD, 152 MMC1_D5, 154 MMC1_CLK, 156 MMC1_D6, 158 MMC1_D7, 160 MMC1_D0, 162 MMC1_D1, 164 MMC1_CD#
part L pins: 239 BKL1_PWM, 243 LCD1_PCLK, 245 LCD1_VSYNC, 247 LCD1_HSYNC, 249 LCD1_DE, 251 LCD1_R0, 253 LCD1_R1, 255 LCD1_R2, 257 LCD1_R3, 259 LCD1_R4, 261 LCD1_R5, 263 LCD1_R6, 265 LCD1_R7, 269 LCD1_G0, 271 LCD1_G1, 273 LCD1_G2, 275 LCD1_G3, 277 LCD1_G4, 279 LCD1_G5, 281 LCD1_G6, 283 LCD1_G7, 286 BKL1_ON, 287 LCD1_B0, 289 LCD1_B1, 291 LCD1_B2, 293 LCD1_B3, 295 LCD1_B4, 297 LCD1_B5, 299 LCD1_B6, 301 LCD1_B7
part M pins: 215 SPDIF1_OUT, 217 SPDIF1_IN
part N pins: 173 CAM1_D7, 175 CAM1_D6, 177 CAM1_D5, 179 CAM1_D4, 181 CAM1_D3, 183 CAM1_D2, 185 CAM1_D1, 187 CAM1_D0, 191 CAM1_PCLK, 193 CAM1_MCLK, 195 CAM1_VSYNC, 197 CAM1_HSYNC, 201 I2C3_SDA, 203 I2C3_SCL
part O pins: 246 LVDS1_A_CLK-, 248 LVDS1_A_CLK+, 252 LVDS1_A_TX0-, 254 LVDS1_A_TX0+, 258 LVDS1_A_TX1-, 260 LVDS1_A_TX1+, 264 LVDS1_A_TX2-, 266 LVDS1_A_TX2+, 270 LVDS1_A_TX3-, 272 LVDS1_A_TX3+, 276 LVDS1_B_CLK-, 278 LVDS1_B_CLK+, 282 LVDS1_B_TX0-, 284 LVDS1_B_TX0+, 288 LVDS1_B_TX1-, 290 LVDS1_B_TX1+, 294 LVDS1_B_TX2-, 296 LVDS1_B_TX2+, 300 LVDS1_B_TX3-, 302 LVDS1_B_TX3+
part P pins: 1 GPIO1, 3 GPIO2, 5 GPIO3, 7 GPIO4, 11 GPIO5, 13 GPIO6, 15 GPIO7, 17 GPIO8
part Q pins: 12 CAN1_RX, 14 CAN1_TX, 16 CAN2_RX, 18 CAN2_TX
part R pins: 41 PCIE1_RX-, 43 PCIE1_RX+, 47 PCIE1_TX-, 49 PCIE1_TX+, 53 PCIE1_CLK-, 55 PCIE1_CLK+
part S pins: 25 SATA1_RX+, 27 SATA1_RX-, 31 SATA1_TX-, 33 SATA1_TX+, 35 SATA1_ACT#
part T pins: 59 TS_DIFF1-, 61 TS_DIFF1+, 63 TS1, 65 TS_DIFF2-, 67 TS_DIFF2+, 71 TS_DIFF3-, 73 TS_DIFF3+, 77 TS_DIFF4-, 79 TS_DIFF4+, 83 TS_DIFF5-, 85 TS_DIFF5+, 87 TS2, 89 TS_DIFF6-, 91 TS_DIFF6+, 95 TS_DIFF7-, 97 TS_DIFF7+, 99 TS3, 101 TS_DIFF8-, 103 TS_DIFF8+, 107 TS_DIFF9-, 109 TS_DIFF9+, 113 TS_DIFF10-, 115 TS_DIFF10+, 119 TS_DIFF11-, 121 TS_DIFF11+, 123 TS4, 125 TS_DIFF12-, 127 TS_DIFF12+, 131 TS_DIFF13-, 133 TS_DIFF13+, 135 TS5, 137 TS_DIFF14-, 139 TS_DIFF14+, 143 TS_DIFF15-, 145 TS_DIFF15+, 149 TS_DIFF16-, 151 TS_DIFF16+, 155 TS_DIFF17-, 157 TS_DIFF17+, 159 TS6, 161 TS_DIFF18-, 163 TS_DIFF18+
part U pins: 221 SPI1_CLK, 223 SPI1_MISO, 225 SPI1_MOSI, 227 SPI1_CS, 229 SPI2_MISO, 231 SPI2_MOSI, 233 SPI2_CS, 235 SPI2_CLK
part V pins: 194 DAP1_MCLK, 196 DAP1_D_OUT, 198 DAP1_RESET#, 200 DAP1_BIT_CLK, 202 DAP1_D_IN, 204 DAP1_SYNC
part W pins: 208 VGA1_R, 210 VGA1_G, 212 VGA1_B, 214 VGA1_HSYNC, 216 VGA1_VSYNC
part X pins: 220 HDMI1_CEC, 222 HDMI1_TXD2+, 224 HDMI1_TXD2-, 228 HDMI1_TXD1+, 230 HDMI1_TXD1-, 232 HDMI1_HPD, 234 HDMI1_TXD0+, 236 HDMI1_TXD0-, 240 HDMI1_TXC+, 242 HDMI1_TXC-
part Y pins: 205 I2C2_SDA, 207 I2C2_SCL
part A text: Apalis - Power Supply; 1 of 25
part B text: Apalis - Gigabit Ethernet; 2 of 25
part C text: Apalis - USB; 3 of 25
part D text: Apalis - System Control; 4 of 25
part E text: Apalis - PWM and Analog; 5 of 25
part F text: Apalis - SDIO; 6 of 25
part G text: Apalis - I2C; 7 of 25
part H text: Apalis - Audio; 8 of 25
part I text: Apalis - Touch; 9 of 25
part J text: Apalis - UART; 10 of 25
part K text: Apalis - MMC; 11 of 25
part L text: Apalis - Digital RGB; 12 of 25
part M text: Apalis - SPDIF; 13 of 25
part N text: Apalis - Parallel Camera; 14 of 25
part O text: Apalis - Dual Channel LVDS; 15 of 25
part P text: Apalis - GPIO; 16 of 25
part Q text: Apalis - CAN; 17 of 25
part R text: Apalis - PCI-Express; 18 of 25
part S text: Apalis - SATA; 19 of 25
part T text: Apalis - Type Specific; 20 of 25
part U text: Apalis - SPI; 21 of 25
part V text: Apalis - Digital Audio; 22 of 25
part W text: Apalis - VGA; 23 of 25
part X text: Apalis - HDMI; 24 of 25
part Y text: Apalis - Display DDC; 25 of 25

## CON-JVE-21B22564-40S10B-01G-2X20-2.54mm
designator X?, comment 21B22564-40S10B-01G
2X20 PIN Header 2.54mm; Manufacturer Name: JVE; No. of ways: 2X20; Manufacturer Part No.: 21B22564-40S10B-01G
footprint T_JVE_21B22564-40S10B-01G (Header 2x20)
pins: 1, 2, 3, 4, 5, 6, 7, 8, 9, 10, 11, 12, 13, 14, 15, 16, 17, 18, 19, 20, 21, 22, 23, 24, 25, 26, 27, 28, 29, 30, 31, 32, 33, 34, 35, 36, 37, 38, 39, 40

## CON-MM-821-22-007-10-000101
designator X?, comment 821-22-007-10-000101
JTAG Pogo pins; Manufacturer Name: Mill-Max; Manufacturer Part No.: 821-22-007-10-000101
footprint T_MILL-MAX_821-22-007-10-000101 (Pogo Pins)
pins: 1 TDI, 2 TDO, 3 TCK, 4 TRST#, 5 TMS, 6 RTCK, 7 V_REF

## CON-MM-823-22-006-10-000101
designator X?  Manufacturer Part No.: 823-22-006-10-000101  (hidden comment: *)
JTAG Pogo pins; Manufacturer Name: Mill-Max
footprint T_MILL-MAX_823-22-006-10-000101 (Pogo Pins)
pins: 1 TDI, 2 TDO, 3 TCK, 4 TRST, 5 TMS, 6
text: JTAG

## CON-MMMC-896-43-008-90-000000
designator X?, comment 896-43-008-90-000000
USB 2.0 double row, Type A; Manufacturer Name: Mill-Max Mfg. Corp.; No. of ways: 8; Manufacturer Part No.: 896-43-008-90-000000
footprint T_MMMC_896-43-008-90-000000 (USB 2.0 double row, Type A)
pins: L1 VCC (power), L2 D-, L3 D+, L4 GND (power), S1 SHIELD, S2 SHIELD, S3 SHIELD, S4 SHIELD, U1 VCC (power), U2 D-, U3 D+, U4 GND (power)

## CON-Molex-22-11-2032
designator X?, comment 22-11-2032
Header with Friction Lock; Manufacturer Name: Molex; No. of ways: 3; Manufacturer Part No.: 22-11-2032
footprint T_MOLEX_22-11-2032 (Connector; Header; 3 Position with Friction Lock)
pins: 1, 2, 3

## CON-Molex-047080-4005
designator X?, comment 0470804005
Sata Plugr SMD; Manufacturer Part No.: 47080-4005; Manufacturer name: Molex
footprint T_Molex_47080-4005 (SATA Connector SMD)
pins: 1 GND (power), 2 A+ (TX+), 3 A- (TX-), 4 GND (power), 5 B- (RX-), 6 B+ (RX+), 7 GND (power)

## CON-Molex-47589-0001-5-0.65
designator X?  Manufacturer Part No.: 47589-0001
Micro USB OTG Connector; Manufacturer Name: Molex; No. of ways: 5
footprint T_Molex_47589-0001 (Micro USB Connector)
part A pins: 1 VCC (power), 2 D-, 3 D+, 4 ID, 5 GND (power)
part B pins: S1 SHIELD, S2 SHIELD, S3 SHIELD, S4 SHIELD

## CON-Molex-52435-2471-24-0.5mm
designator X?, comment 52435-2471
0.50mm Pitch FFC/FPC DVI Connector; Manufacturer Name: Molex; No. of ways: 24; Pitch: 0.5mm; Manufacturer Part No.: 52435-2471
footprint T_MOLEX_52435-2471 (DVI FFC Connector 0.5mm pitch)
pins: 1 GND, 2 TMDS_CLK_P, 3 TMDS_CLK_N, 4 GND, 5 TMDS_DATA0_P, 6 TMDS_DATA0_N, 7 GND, 8 TMDS_DATA1_P, 9 TMDS_DATA1_N, 10 GND, 11 TMDS_DATA2_P, 12 TMDS_DATA2_N, 13 VDD, 14 HOTPLUG_DETECT, 15 DDC_CLK, 16 DDC_DATA, 17 GND, 18 CRT_RED, 19 GND, 20 CRT_GREEN, 21 GND, 22 CRT_BLUE, 23 CRT_VSYNC, 24 CRT_HSYNC

## CON-Molex-52746-0890-8-0.5mm
designator X?, comment 52746-0890
0.50mm Pitch FFC/FPC JTAG Connector; Manufacturer Name: Molex; No. of ways: 8; Pitch: 0.5mm; Manufacturer Part No.: 52746-0890
footprint T_MOLEX_52746-0890 (JTAG FFC Connector 0.5mm pitch)
part A pins: 1, 2, 3, 4, 5, 6, 7, 8
part B pins: S1 SHIELD, S2 SHIELD

## CON-Molex-52746-0890-8-0.5mm_1
designator X?, comment 52746-0890
0.50mm Pitch FFC/FPC JTAG Connector; Manufacturer Name: Molex; No. of ways: 8; Pitch: 0.5mm; Manufacturer Part No.: 52746-0890
footprint T_MOLEX_52746-0890 (JTAG FFC Connector 0.5mm pitch)
part A pins: 1, 2, 3, 4, 5, 6, 7, 8
part B pins: S1 SHIELD, S2 SHIELD

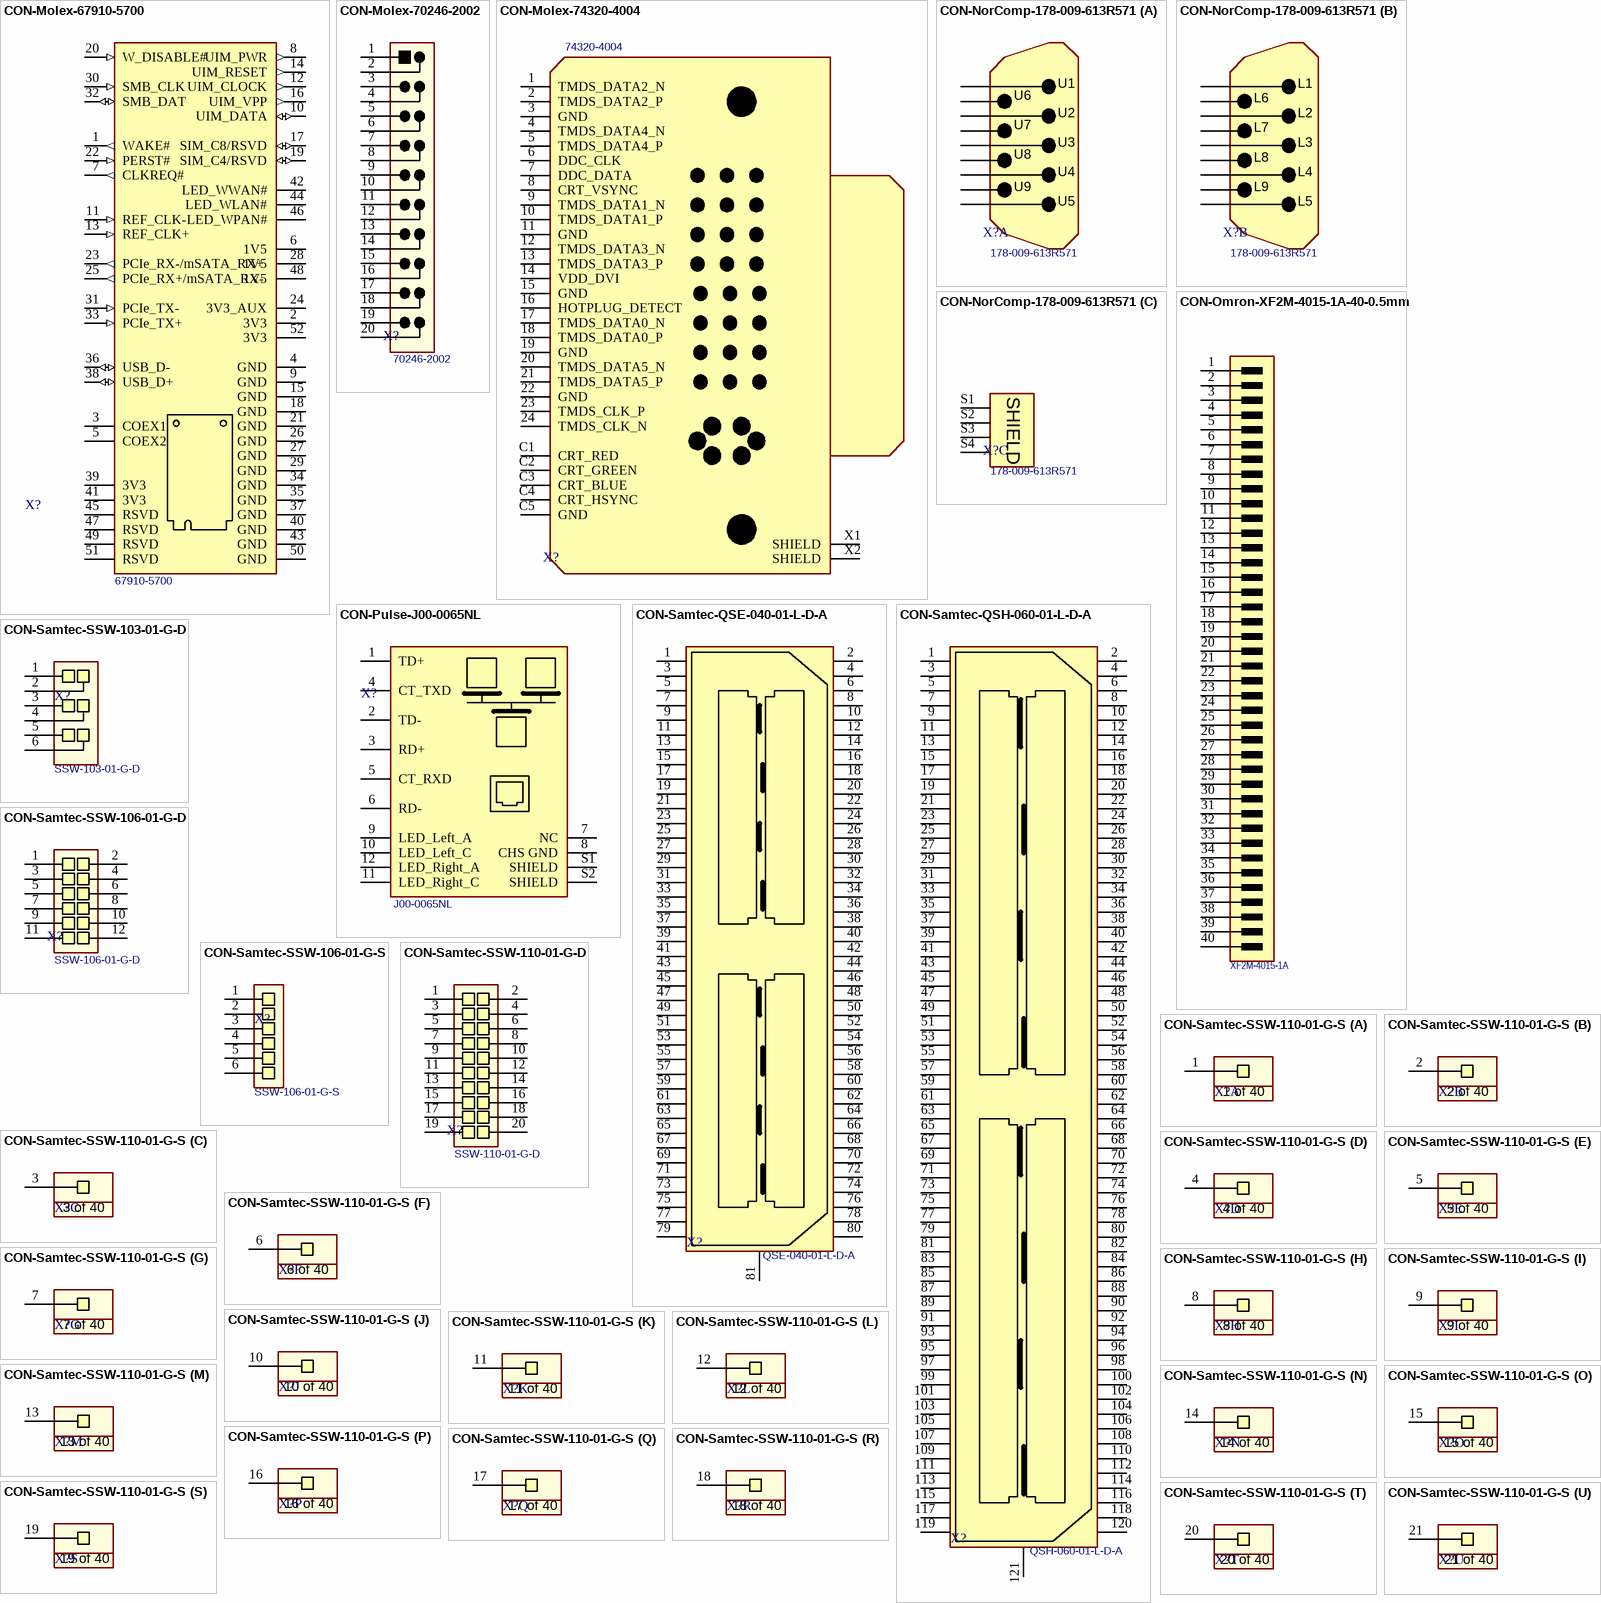
[diagram p6: symbols CON-Molex-67910-5700 to CON-Samtec-SSW-110-01-G-S]

## CON-Molex-67910-5700
designator X?, comment 67910-5700
PCIe_Mini Card Holder; Manufacturer Name: Molex; Part No.: 67910-5700
footprint T_Molex_67910-5700 (Molex PCIe mini card connector with clip)
pins: 1 WAKE# (out), 2 3V3 (power), 3 COEX1, 4 GND (power), 5 COEX2, 6 1V5 (power), 7 CLKREQ# (out), 8 UIM_PWR (out), 9 GND (power), 10 UIM_DATA (io), 11 REF_CLK- (in), 12 UIM_CLOCK (out), 13 REF_CLK+ (in), 14 UIM_RESET (out), 15 GND (power), 16 UIM_VPP (out), 17 SIM_C8/RSVD (io), 18 GND (power), 19 SIM_C4/RSVD (io), 20 W_DISABLE# (in), 21 GND (power), 22 PERST# (in), 23 PCIe_RX-/mSATA_RX+ (out), 24 3V3_AUX (power), 25 PCIe_RX+/mSATA_RX- (out), 26 GND (power), 27 GND (power), 28 1V5 (power), 29 GND (power), 30 SMB_CLK (in), 31 PCIe_TX- (in), 32 SMB_DAT (io), 33 PCIe_TX+ (in), 34 GND (power), 35 GND (power), 36 USB_D- (io), 37 GND (power), 38 USB_D+ (io), 39 3V3, 40 GND (power), 41 3V3, 42 LED_WWAN# (oc), 43 GND (power), 44 LED_WLAN# (oc), 45 RSVD, 46 LED_WPAN# (oc), 47 RSVD, 48 1V5 (power), 49 RSVD, 50 GND (power), 51 RSVD, 52 3V3 (power)

## CON-Molex-70246-2002
designator X?, comment 70246-2002
Header shrouded male, 2x10 pin 2.54mm pitch; Manufacturer Name: Molex; No. of ways: 2x10; Pitch: 2.54mm; Manufacturer Part No.: 70246-2002
footprint T_Molex_70246-2002 (Header shrouded, 2x10 Pins, 2.54 mm pitch)
pins: 1, 2, 3, 4, 5, 6, 7, 8, 9, 10, 11, 12, 13, 14, 15, 16, 17, 18, 19, 20

## CON-Molex-74320-4004
designator X?, comment 74320-4004
DVI-Connectors; Manufacturer Name: Molex; No. of ways: 31; Manufacturer Part No.: 74320-4004
footprint T_Molex_74320-1004 (DVI-Connectors)
pins: 1 TMDS_DATA2_N, 2 TMDS_DATA2_P, 3 GND, 4 TMDS_DATA4_N, 5 TMDS_DATA4_P, 6 DDC_CLK, 7 DDC_DATA, 8 CRT_VSYNC, 9 TMDS_DATA1_N, 10 TMDS_DATA1_P, 11 GND, 12 TMDS_DATA3_N, 13 TMDS_DATA3_P, 14 VDD_DVI, 15 GND, 16 HOTPLUG_DETECT, 17 TMDS_DATA0_N, 18 TMDS_DATA0_P, 19 GND, 20 TMDS_DATA5_N, 21 TMDS_DATA5_P, 22 GND, 23 TMDS_CLK_P, 24 TMDS_CLK_N, C1 CRT_RED, C2 CRT_GREEN, C3 CRT_BLUE, C4 CRT_HSYNC, C5 GND, X1 SHIELD, X2 SHIELD

## CON-NorComp-178-009-613R571
designator X?, comment 178-009-613R571
RS232 Connector 9 pins male; Manufacturer Name: NorComp; No. of Ways: 18; Manufacturer Part No.: 178-009-613R571
footprint T_NorComp_178-YYY-613R691 (0.750 Center Dual Port D-Sub - Male over Male)
part A pins: U1 DCD, U2 RXD, U3 TXD, U4 DTR, U5 GND, U6 DSR, U7 RTS, U8 CTS, U9 RI
part B pins: L1 DCD, L2 RXD, L3 TXD, L4 DTR, L5 GND, L6 DSR, L7 RTS, L8 CTS, L9 RI
part C pins: S1 SHIELD, S2 SHIELD, S3 SHIELD, S4 SHIELD

## CON-Omron-XF2M-4015-1A-40-0.5mm
designator X?, comment XF2M-4015-1A
RGB Connector; Manufacturer Name: Omron; No. of ways: 40; Pitch: 0.5mm; Manufacturer Part No.: XF2M-4015-1A
footprint T_Omron_XF2M-4015-1A (DVI FFC Connector 0.5mm pitch)
pins: 1 VSS (power), 2 VSS (power), 3 VCC (power), 4 VCC (power), 5 PWCTRL, 6 LEDCTRL, 7 RESET#, 8 B5, 9 B4, 10 B3, 11 B2, 12 B1, 13 B0, 14 VSS, 15 G5, 16 G4, 17 G3, 18 G2, 19 G1, 20 G0, 21 VSS, 22 R5, 23 R4, 24 R3, 25 R2, 26 R1, 27 R0, 28 DCLK, 29 VSS, 30 HSYNC, 31 VSYNC, 32 ENB, 33 NC, 34 SHUT, 35 VSS, 36 VDD, 37 YU, 38 XR, 39 YD, 40 XL

## CON-Pulse-J00-0065NL
designator X?, comment J00-0065NL
RJ45 Connector; Manufacturer Name: Pulse; No. of ways: 12; Manufacturer Part No.: J00-0065NL
footprint T_Pulse_J00-0065NL (RJ45 Connector)
pins: 1 TD+, 2 TD-, 3 RD+, 4 CT_TXD, 5 CT_RXD, 6 RD-, 7 NC, 8 CHS GND, 9 LED_Left_A, 10 LED_Left_C, 11 LED_Right_C, 12 LED_Right_A, S1 SHIELD, S2 SHIELD

## CON-Samtec-QSE-040-01-L-D-A
designator X?, comment QSE-040-01-L-D-A
High Speed Ground Plane Socket; Manufacturer Name: Samtec; Pitch: 0.8mm; No. of ways: 80; Manufacturer Part No.: QSE-040-01-L-D-A
footprint T_Samtech_QSE-040-01-L-D-A (High Speed Ground Plane Socket)
pins: 1, 2, 3, 4, 5, 6, 7, 8, 9, 10, 11, 12, 13, 14, 15, 16, 17, 18, 19, 20, 21, 22, 23, 24, 25, 26, 27, 28, 29, 30, 31, 32, 33, 34, 35, 36, 37, 38, 39, 40, 41, 42, 43, 44, 45, 46, 47, 48, 49, 50, 51, 52, 53, 54, 55, 56, 57, 58, 59, 60, 61, 62, 63, 64, 65, 66, 67, 68, 69, 70, 71, 72, 73, 74, 75, 76, 77, 78, 79, 80, 81

## CON-Samtec-QSH-060-01-L-D-A
designator X?, comment QSH-060-01-L-D-A
High Speed Ground Plane Socket; Manufacturer Name: Samtec; Pitch: 0.5mm; No. of ways: 120; Manufacturer Part No.: QSH-060-01-L-D-A
footprint T_Samtech_QSH-060-01-L-D-A (High Speed Ground Plane Socket)
pins: 1, 2, 3, 4, 5, 6, 7, 8, 9, 10, 11, 12, 13, 14, 15, 16, 17, 18, 19, 20, 21, 22, 23, 24, 25, 26, 27, 28, 29, 30, 31, 32, 33, 34, 35, 36, 37, 38, 39, 40, 41, 42, 43, 44, 45, 46, 47, 48, 49, 50, 51, 52, 53, 54, 55, 56, 57, 58, 59, 60, 61, 62, 63, 64, 65, 66, 67, 68, 69, 70, 71, 72, 73, 74, 75, 76, 77, 78, 79, 80, 81, 82, 83, 84, 85, 86, 87, 88, 89, 90, 91, 92, 93, 94, 95, 96, 97, 98, 99, 100, 101, 102, 103, 104, 105, 106, 107, 108, 109, 110, 111, 112, 113, 114, 115, 116, 117, 118, 119, 120, 121

## CON-Samtec-SSW-103-01-G-D
designator X?, comment Manufacturer Part No.: SSW-103-01-G-D  (hidden comment: TSW-103-01-G-D)
Receptacle Female Socket, 2x3 Pins, 2.54mm pitch; Manufacturer Name: Samtec; No. of ways: 2x3; Pitch: 2.54mm
footprint T_Samtec_SSW-103-01-G-D (Header, 2x3 Pins, 2.54 mm pitch)
pins: 1, 2, 3, 4, 5, 6

## CON-Samtec-SSW-106-01-G-D
designator X?, comment SSW-106-01-G-D
Header Female, 2x6 Pins, 2.54 mm pitch; Manufacturer Name: Samtec; Pitch: 2.54mm; No. of wasy: 2x6; Manufacturer Part No.: SSW-106-01-G-D
footprint T_Samtec_SSW-106-01-G-D (Header, 2x6 Pins, 2.54 mm pitch)
pins: 1, 2, 3, 4, 5, 6, 7, 8, 9, 10, 11, 12

## CON-Samtec-SSW-106-01-G-S
designator X?, comment SSW-106-01-G-S
Receptacle Female Socket, 1x6 Pins, 2.54mm pitch; Manufacturer Name: Samtec; No. of ways: 1x6; Pitch: 2.54mm; Manufacturer Part No.: SSW-106-01-G-S
footprint T_samtech_SSW-106-01-G-S (Receptacle Female Socket, 1x6 Pins, 2.54mm pitch)
pins: 1, 2, 3, 4, 5, 6

## CON-Samtec-SSW-110-01-G-D
designator X?, comment SSW-110-01-G-D
Receptacle Female Socket 2x10 Pins, 2.54 mm pitch; Manufacturer Name: Samtec; Pitch: 2.54mm; No. of wasy: 2x10; Manufacturer Part No.: SSW-110-01-G-D
footprint T_Samtec_SSW-110-01-G-D (Receptacle Female Socket  2x10 Pins, 2.54 mm pitch)
pins: 1, 2, 3, 4, 5, 6, 7, 8, 9, 10, 11, 12, 13, 14, 15, 16, 17, 18, 19, 20

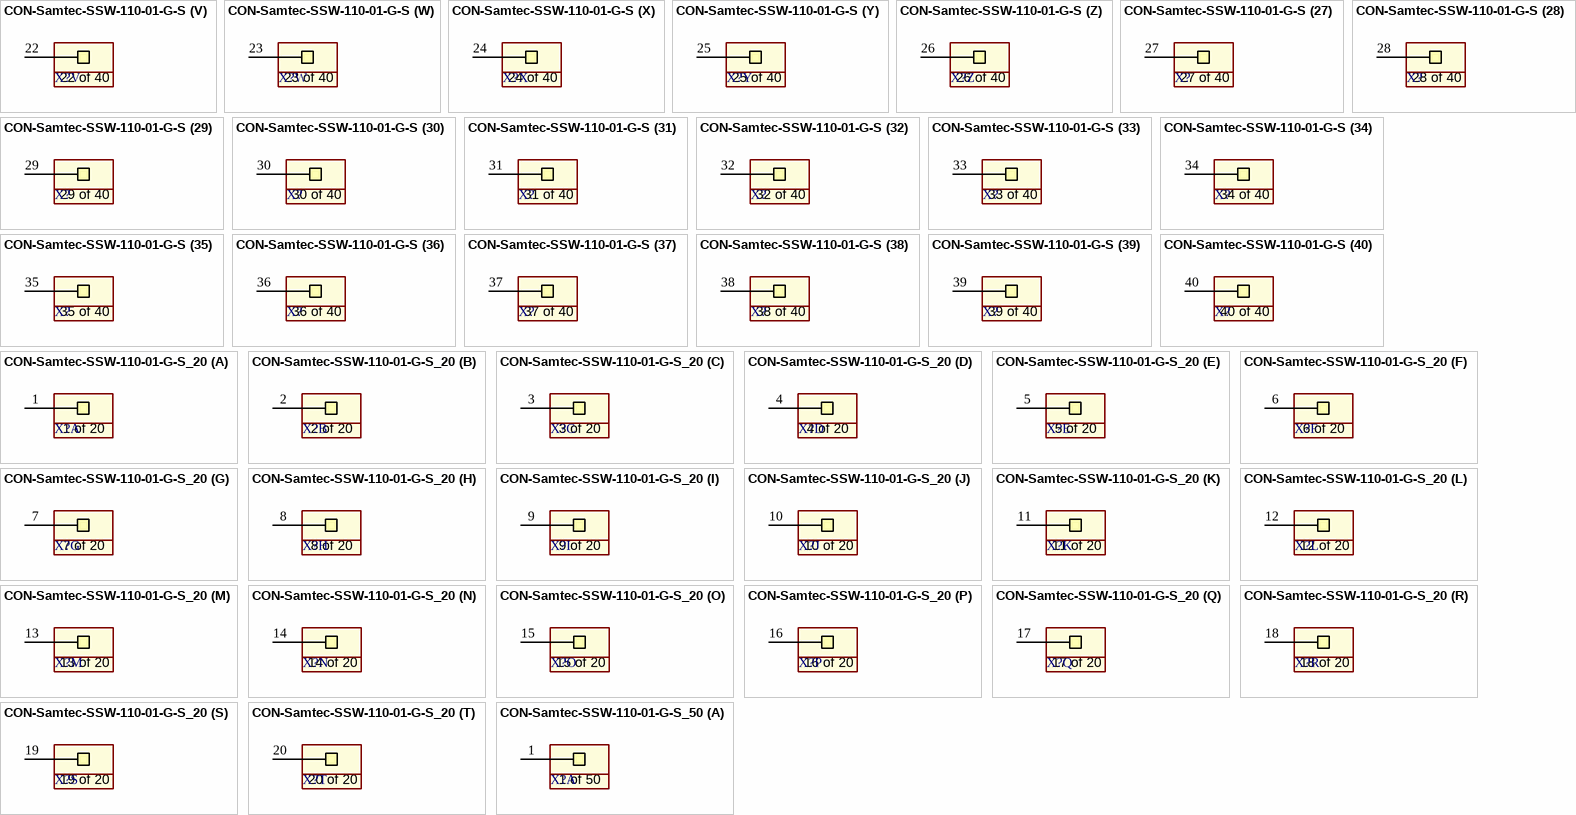
[diagram p7: symbols CON-Samtec-SSW-110-01-G-S to CON-Samtec-SSW-110-01-G-S_50]

## CON-Samtec-SSW-110-01-G-S
designator X?, comment SSW-110-01-G-S  (value not drawn)
Receptacle Female Socket 1x40 pin 2.54mm pitch; Manufacturer Name: Samtec; Pitch: 2.54mm; No. of ways: 1x40; Manufacturer Part No.: SSW-110-01-G-S
footprint T_Samtec_SSW-110-01-G-S (Receptacle Female Socket,  1x40 Pins, 2.54 mm pitch)
part A pins: 1
part B pins: 2
part C pins: 3
part D pins: 4
part E pins: 5
part F pins: 6
part G pins: 7
part H pins: 8
part I pins: 9
part J pins: 10
part K pins: 11
part L pins: 12
part M pins: 13
part N pins: 14
part O pins: 15
part P pins: 16
part Q pins: 17
part R pins: 18
part S pins: 19
part T pins: 20
part U pins: 21
part V pins: 22
part W pins: 23
part X pins: 24
part Y pins: 25
part Z pins: 26
part 27 pins: 27
part 28 pins: 28
part 29 pins: 29
part 30 pins: 30
part 31 pins: 31
part 32 pins: 32
part 33 pins: 33
part 34 pins: 34
part 35 pins: 35
part 36 pins: 36
part 37 pins: 37
part 38 pins: 38
part 39 pins: 39
part 40 pins: 40
part A text: 1 of 40
part B text: 2 of 40
part C text: 3 of 40
part D text: 4 of 40
part E text: 5 of 40
part F text: 6 of 40
part G text: 7 of 40
part H text: 8 of 40
part I text: 9 of 40
part J text: 10 of 40
part K text: 11 of 40
part L text: 12 of 40
part M text: 13 of 40
part N text: 14 of 40
part O text: 15 of 40
part P text: 16 of 40
part Q text: 17 of 40
part R text: 18 of 40
part S text: 19 of 40
part T text: 20 of 40
part U text: 21 of 40
part V text: 22 of 40
part W text: 23 of 40
part X text: 24 of 40
part Y text: 25 of 40
part Z text: 26 of 40
part 27 text: 27 of 40
part 28 text: 28 of 40
part 29 text: 29 of 40
part 30 text: 30 of 40
part 31 text: 31 of 40
part 32 text: 32 of 40
part 33 text: 33 of 40
part 34 text: 34 of 40
part 35 text: 35 of 40
part 36 text: 36 of 40
part 37 text: 37 of 40
part 38 text: 38 of 40
part 39 text: 39 of 40
part 40 text: 40 of 40

## CON-Samtec-SSW-110-01-G-S_20
designator X?, comment SSW-110-01-G-S  (value not drawn)
Header 1x20 pin 2.54mm pitch; Manufacturer Name: Samtec; Pitch: 2.54mm; No. of ways: 1x20; Manufacturer Part No.: SSW-110-01-G-S
footprint T_Samtec_SSW-110-01-G-S_20 (Receptacle Female Socket 1x20 Pins, 2.54 mm pitch)
part A pins: 1
part B pins: 2
part C pins: 3
part D pins: 4
part E pins: 5
part F pins: 6
part G pins: 7
part H pins: 8
part I pins: 9
part J pins: 10
part K pins: 11
part L pins: 12
part M pins: 13
part N pins: 14
part O pins: 15
part P pins: 16
part Q pins: 17
part R pins: 18
part S pins: 19
part T pins: 20
part A text: 1 of 20
part B text: 2 of 20
part C text: 3 of 20
part D text: 4 of 20
part E text: 5 of 20
part F text: 6 of 20
part G text: 7 of 20
part H text: 8 of 20
part I text: 9 of 20
part J text: 10 of 20
part K text: 11 of 20
part L text: 12 of 20
part M text: 13 of 20
part N text: 14 of 20
part O text: 15 of 20
part P text: 16 of 20
part Q text: 17 of 20
part R text: 18 of 20
part S text: 19 of 20
part T text: 20 of 20

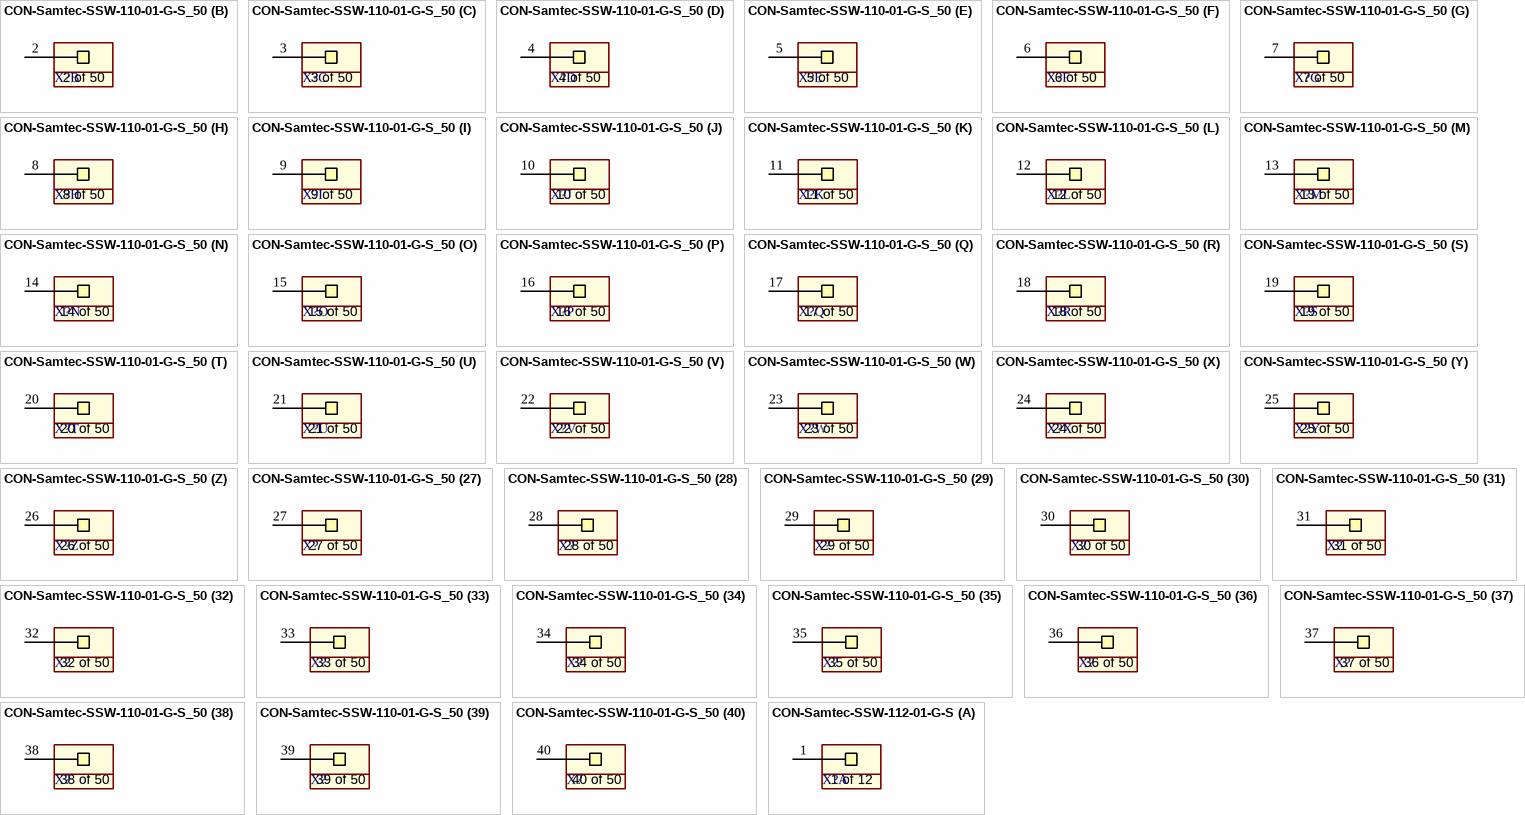
[diagram p8: symbols CON-Samtec-SSW-110-01-G-S_50 to CON-Samtec-SSW-112-01-G-S]

## CON-Samtec-SSW-110-01-G-S_50
designator X?, comment SSW-110-01-G-S  (value not drawn)
Header 1x50 pin 2.54mm pitch; Manufacturer Name: Samtec; Pitch: 2.54mm; No. of ways: 1x50; Manufacturer Part No.: SSW-110-01-G-S
footprint T_Samtec_SSW-110-01-G-S (Header, 1x50 Pins, 2.54 mm pitch)
part A pins: 1
part B pins: 2
part C pins: 3
part D pins: 4
part E pins: 5
part F pins: 6
part G pins: 7
part H pins: 8
part I pins: 9
part J pins: 10
part K pins: 11
part L pins: 12
part M pins: 13
part N pins: 14
part O pins: 15
part P pins: 16
part Q pins: 17
part R pins: 18
part S pins: 19
part T pins: 20
part U pins: 21
part V pins: 22
part W pins: 23
part X pins: 24
part Y pins: 25
part Z pins: 26
part 27 pins: 27
part 28 pins: 28
part 29 pins: 29
part 30 pins: 30
part 31 pins: 31
part 32 pins: 32
part 33 pins: 33
part 34 pins: 34
part 35 pins: 35
part 36 pins: 36
part 37 pins: 37
part 38 pins: 38
part 39 pins: 39
part 40 pins: 40
part 41 pins: 41
part 42 pins: 42
part 43 pins: 43
part 44 pins: 44
part 45 pins: 45
part 46 pins: 46
part 47 pins: 47
part 48 pins: 48
part 49 pins: 49
part 50 pins: 50
part A text: 1 of 50
part B text: 2 of 50
part C text: 3 of 50
part D text: 4 of 50
part E text: 5 of 50
part F text: 6 of 50
part G text: 7 of 50
part H text: 8 of 50
part I text: 9 of 50
part J text: 10 of 50
part K text: 11 of 50
part L text: 12 of 50
part M text: 13 of 50
part N text: 14 of 50
part O text: 15 of 50
part P text: 16 of 50
part Q text: 17 of 50
part R text: 18 of 50
part S text: 19 of 50
part T text: 20 of 50
part U text: 21 of 50
part V text: 22 of 50
part W text: 23 of 50
part X text: 24 of 50
part Y text: 25 of 50
part Z text: 26 of 50
part 27 text: 27 of 50
part 28 text: 28 of 50
part 29 text: 29 of 50
part 30 text: 30 of 50
part 31 text: 31 of 50
part 32 text: 32 of 50
part 33 text: 33 of 50
part 34 text: 34 of 50
part 35 text: 35 of 50
part 36 text: 36 of 50
part 37 text: 37 of 50
part 38 text: 38 of 50
part 39 text: 39 of 50
part 40 text: 40 of 50
part 41 text: 41 of 50
part 42 text: 42 of 50
part 43 text: 43 of 50
part 44 text: 44 of 50
part 45 text: 45 of 50
part 46 text: 46 of 50
part 47 text: 47 of 50
part 48 text: 48 of 50
part 49 text: 49 of 50
part 50 text: 50 of 50

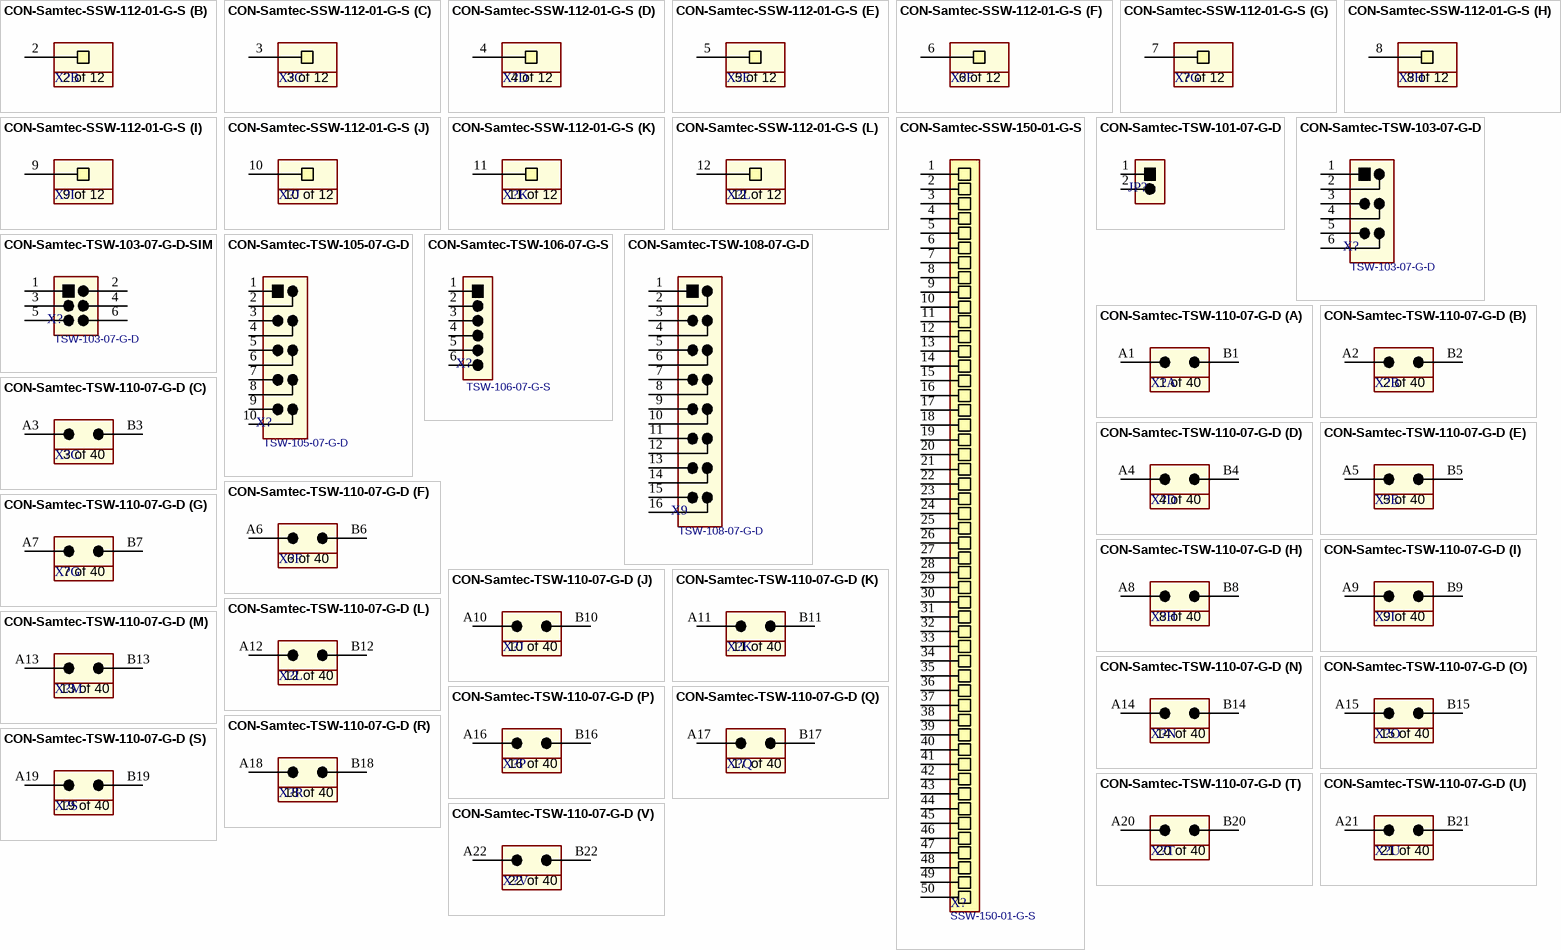
[diagram p9: symbols CON-Samtec-SSW-112-01-G-S to CON-Samtec-TSW-110-07-G-D]

## CON-Samtec-SSW-112-01-G-S
designator X?, comment SSW-112-01-G-S  (value not drawn)
Header 1x12 pin 2.54mm pitch; Manufacturer Name: Samtec; Pitch: 2.54mm; No. of ways: 1x12; Manufacturer Part No.: SSW-112-01-G-S
footprint T_Samtec_SSW-112-01-G-S (Footprint not found)
part A pins: 1
part B pins: 2
part C pins: 3
part D pins: 4
part E pins: 5
part F pins: 6
part G pins: 7
part H pins: 8
part I pins: 9
part J pins: 10
part K pins: 11
part L pins: 12
part A text: 1 of 12
part B text: 2 of 12
part C text: 3 of 12
part D text: 4 of 12
part E text: 5 of 12
part F text: 6 of 12
part G text: 7 of 12
part H text: 8 of 12
part I text: 9 of 12
part J text: 10 of 12
part K text: 11 of 12
part L text: 12 of 12

## CON-Samtec-SSW-150-01-G-S
designator X?, comment SSW-150-01-G-S
Header 1x50 pin 2.54mm pitch; Manufacturer Name: Samtec; Pitch: 2.54mm; No. of ways: 1x50; Manufacturer Part No.: SSW-150-01-G-S
footprint T_Samtec_SSW-150-01-G-S (Header, 1x50 Pins, 2.54 mm pitch)
pins: 1, 2, 3, 4, 5, 6, 7, 8, 9, 10, 11, 12, 13, 14, 15, 16, 17, 18, 19, 20, 21, 22, 23, 24, 25, 26, 27, 28, 29, 30, 31, 32, 33, 34, 35, 36, 37, 38, 39, 40, 41, 42, 43, 44, 45, 46, 47, 48, 49, 50

## CON-Samtec-TSW-101-07-G-D
designator JP?, comment TSW-101-07-G-D  (value not drawn)
Header male, 1x2 Pins, 2.54 mm pitch; Manufacturer Name: Samtec; Pitch: 2.54 mm; No. of ways: 1x2; Manufacturer Part no.: TSW-101-07-G-D
footprint T_Samtec_TSW-101-07-G-D (Header, 1x2 Pins, 2.54 mm pitch, male)
pins: 1, 2

## CON-Samtec-TSW-103-07-G-D
designator X?, comment TSW-103-07-G-D
Header Male, 2x3 Pins, 2.54mm pitch; Manufacturer Name: Samtec; No. of. ways: 2x3; Pitch: 2.54mm; Manufacturer Part No.: TSW-103-07-G-D
footprint T_Samtec_TSW-103-07-G-D (Header, 2x3 Pins, 2.54 mm pitch, male)
pins: 1, 2, 3, 4, 5, 6

## CON-Samtec-TSW-103-07-G-D-SIM
designator X?, comment TSW-103-07-G-D
Header Male, 2x3 Pins, 2.54mm pitch; Manufacturer Name: Samtec; No. of. ways: 2x3; Pitch: 2.54mm; Manufacturer Part No.: TSW-103-07-G-D
footprint T_Samtec_TSW-103-07-G-D (Header, 2x3 Pins, 2.54 mm pitch, male)
pins: 1, 2, 3, 4, 5, 6

## CON-Samtec-TSW-105-07-G-D
designator X?, comment TSW-105-07-G-D
Header Male, 2x5 Pins, 2.54mm pitch; Manufacturer Name: Samtec; No. of. ways: 2x5; Pitch: 2.54mm; Manufacturer Part No.: TSW-105-07-G-D
footprint T_Samtec_TSW-105-07-G-D (Header, 2x5 Pins, 2.54 mm pitch, male)
pins: 1, 2, 3, 4, 5, 6, 7, 8, 9, 10

## CON-Samtec-TSW-106-07-G-S
designator X?, comment TSW-106-07-G-S
Header male, 1X6 Pins, 2.54 mm pitch; Manufacturer Name: Samtec; Pitch: 2.54 mm; No. of ways: 1X6; Manufacturer Part No.: TSW-106-07-G-S
footprint T_samtech_TSW-106-07-G-S (Connector, Header, 6 Position, 2.54mm pitch)
pins: 1, 2, 3, 4, 5, 6

## CON-Samtec-TSW-108-07-G-D
designator X9, comment TSW-108-07-G-D
Header Male, 2x8 Pins, 2.54mm pitch; Manufacturer Name: Samtec; No. of ways: 2x8; Pitch: 2.54mm; Manufacturer Part No.: TSW-108-07-G-D
footprint T_Samtec_TSW-108-07-G-D (Header, 2x8 Pins, 2.54 mm pitch, male)
pins: 1, 2, 3, 4, 5, 6, 7, 8, 9, 10, 11, 12, 13, 14, 15, 16

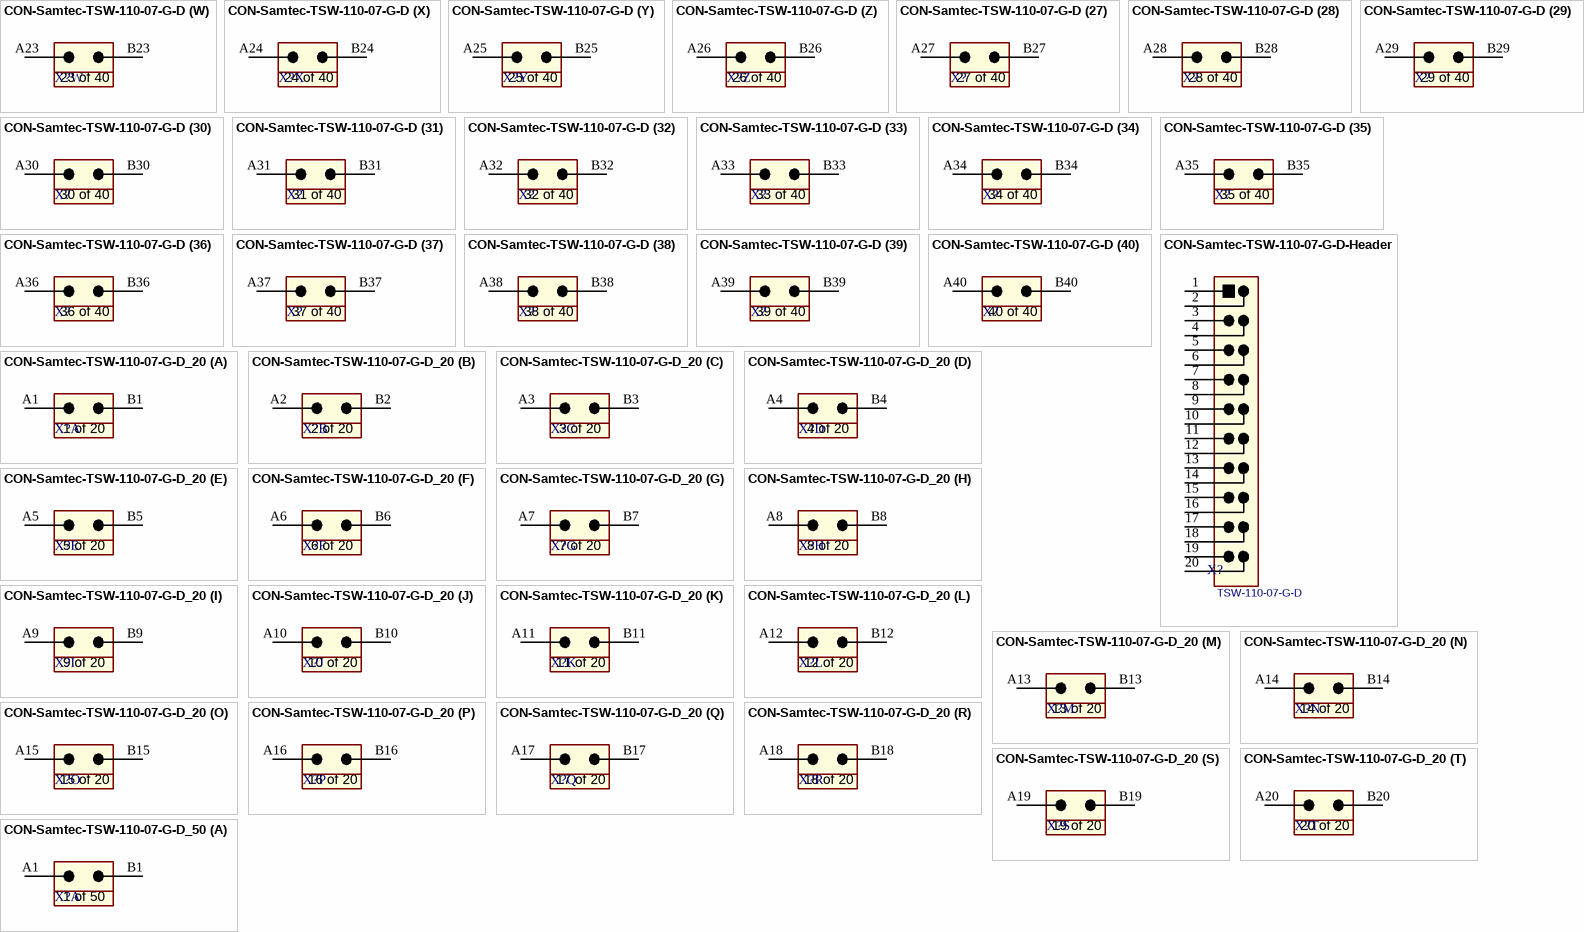
[diagram p10: symbols CON-Samtec-TSW-110-07-G-D to CON-Samtec-TSW-110-07-G-D_50]

## CON-Samtec-TSW-110-07-G-D
designator X?, comment TSW-110-07-G-D  (value not drawn)
Header 2x40 pin 2.54mm pitch; Manufacturer Name: Samtec; Pitch: 2.54mm; No. of ways: 2x40; Manufacturer Part No.: TSW-110-07-G-D
footprint T_Samtec_TSW-110-07-G-D (Header 2x50 pin 2.54mm pitch)
part A pins: A1, B1
part B pins: A2, B2
part C pins: A3, B3
part D pins: A4, B4
part E pins: A5, B5
part F pins: A6, B6
part G pins: A7, B7
part H pins: A8, B8
part I pins: A9, B9
part J pins: A10, B10
part K pins: A11, B11
part L pins: A12, B12
part M pins: A13, B13
part N pins: A14, B14
part O pins: A15, B15
part P pins: A16, B16
part Q pins: A17, B17
part R pins: A18, B18
part S pins: A19, B19
part T pins: A20, B20
part U pins: A21, B21
part V pins: A22, B22
part W pins: A23, B23
part X pins: A24, B24
part Y pins: A25, B25
part Z pins: A26, B26
part 27 pins: A27, B27
part 28 pins: A28, B28
part 29 pins: A29, B29
part 30 pins: A30, B30
part 31 pins: A31, B31
part 32 pins: A32, B32
part 33 pins: A33, B33
part 34 pins: A34, B34
part 35 pins: A35, B35
part 36 pins: A36, B36
part 37 pins: A37, B37
part 38 pins: A38, B38
part 39 pins: A39, B39
part 40 pins: A40, B40
part A text: 1 of 40
part B text: 2 of 40
part C text: 3 of 40
part D text: 4 of 40
part E text: 5 of 40
part F text: 6 of 40
part G text: 7 of 40
part H text: 8 of 40
part I text: 9 of 40
part J text: 10 of 40
part K text: 11 of 40
part L text: 12 of 40
part M text: 13 of 40
part N text: 14 of 40
part O text: 15 of 40
part P text: 16 of 40
part Q text: 17 of 40
part R text: 18 of 40
part S text: 19 of 40
part T text: 20 of 40
part U text: 21 of 40
part V text: 22 of 40
part W text: 23 of 40
part X text: 24 of 40
part Y text: 25 of 40
part Z text: 26 of 40
part 27 text: 27 of 40
part 28 text: 28 of 40
part 29 text: 29 of 40
part 30 text: 30 of 40
part 31 text: 31 of 40
part 32 text: 32 of 40
part 33 text: 33 of 40
part 34 text: 34 of 40
part 35 text: 35 of 40
part 36 text: 36 of 40
part 37 text: 37 of 40
part 38 text: 38 of 40
part 39 text: 39 of 40
part 40 text: 40 of 40

## CON-Samtec-TSW-110-07-G-D-Header
designator X?, comment TSW-110-07-G-D
Header male, 2x10 pin 2.54mm pitch; Manufacturer Name: Samtec; No. of ways: 2x10; Pitch: 2.54mm; Manufacturer Part No.: TSW-110-07-G-D
footprint T_Samtec_TSW-110-07-G-D-Header (Header, 2x10 Pins, 2.54 mm pitch)
pins: 1, 2, 3, 4, 5, 6, 7, 8, 9, 10, 11, 12, 13, 14, 15, 16, 17, 18, 19, 20

## CON-Samtec-TSW-110-07-G-D_20
designator X?, comment TSW-110-07-G-D  (value not drawn)
Header 2x20 pin 2.54mm pitch; Manufacturer Name: Samtec; Pitch: 2.54mm; No. of ways: 2x20; Manufacturer Part No.: TSW-110-07-G-D
footprint T_Samtec_TSW-110-07-G-D_20 (Header 2x20 pin 2.54mm pitch)
part A pins: A1, B1
part B pins: A2, B2
part C pins: A3, B3
part D pins: A4, B4
part E pins: A5, B5
part F pins: A6, B6
part G pins: A7, B7
part H pins: A8, B8
part I pins: A9, B9
part J pins: A10, B10
part K pins: A11, B11
part L pins: A12, B12
part M pins: A13, B13
part N pins: A14, B14
part O pins: A15, B15
part P pins: A16, B16
part Q pins: A17, B17
part R pins: A18, B18
part S pins: A19, B19
part T pins: A20, B20
part A text: 1 of 20
part B text: 2 of 20
part C text: 3 of 20
part D text: 4 of 20
part E text: 5 of 20
part F text: 6 of 20
part G text: 7 of 20
part H text: 8 of 20
part I text: 9 of 20
part J text: 10 of 20
part K text: 11 of 20
part L text: 12 of 20
part M text: 13 of 20
part N text: 14 of 20
part O text: 15 of 20
part P text: 16 of 20
part Q text: 17 of 20
part R text: 18 of 20
part S text: 19 of 20
part T text: 20 of 20

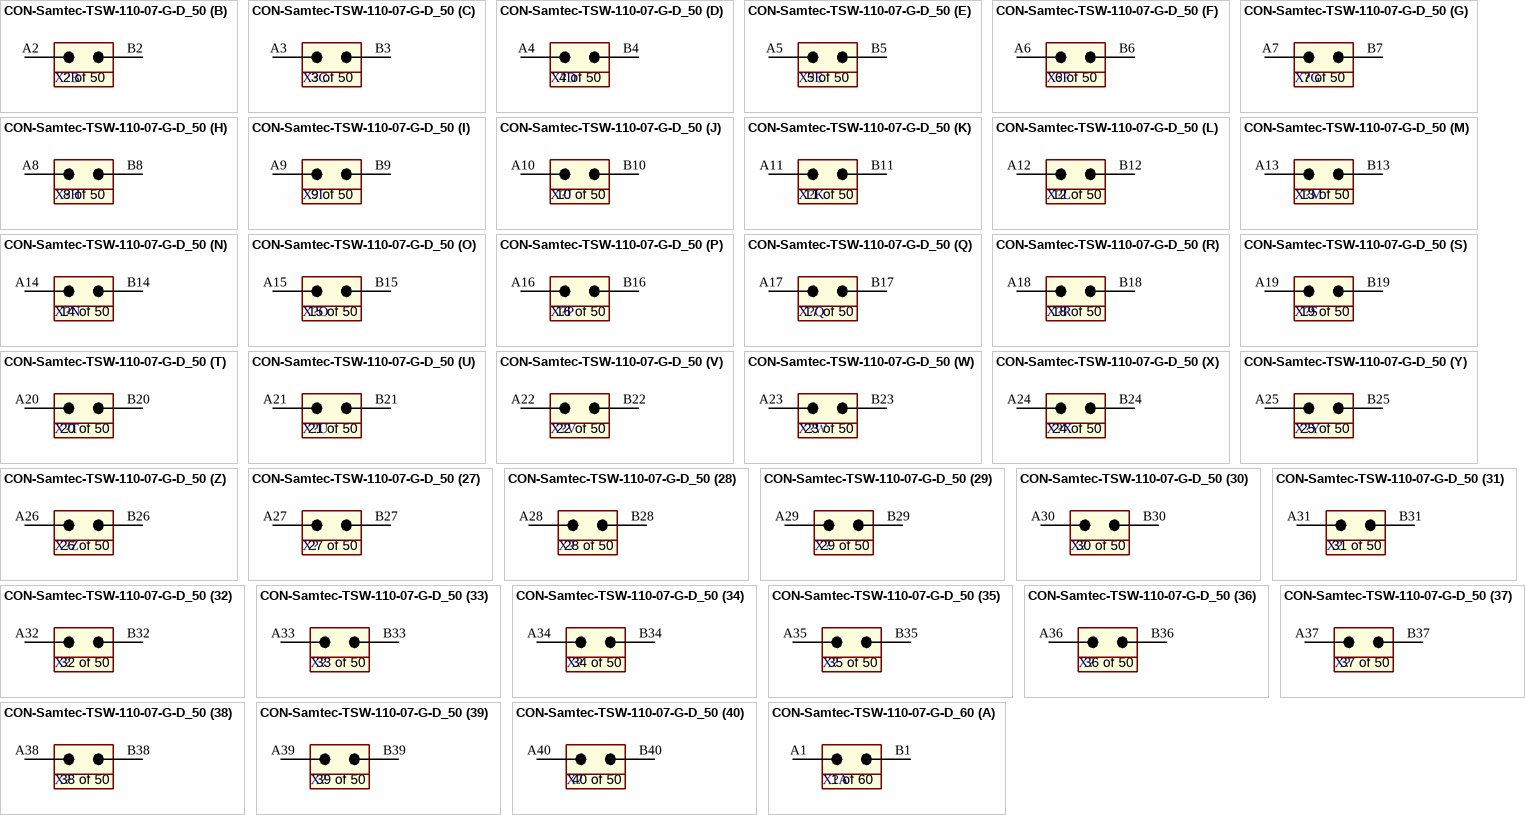
[diagram p11: symbols CON-Samtec-TSW-110-07-G-D_50 to CON-Samtec-TSW-110-07-G-D_60]

## CON-Samtec-TSW-110-07-G-D_50
designator X?, comment TSW-110-07-G-D  (value not drawn)
Header 2x50 pin 2.54mm pitch; Manufacturer Name: Samtec; Pitch: 2.54mm; No. of ways: 2x50; Manufacturer Part No.: TSW-110-07-G-D
footprint T_Samtec_TSW-110-07-G-D (Header 2x50 pin 2.54mm pitch)
part A pins: A1, B1
part B pins: A2, B2
part C pins: A3, B3
part D pins: A4, B4
part E pins: A5, B5
part F pins: A6, B6
part G pins: A7, B7
part H pins: A8, B8
part I pins: A9, B9
part J pins: A10, B10
part K pins: A11, B11
part L pins: A12, B12
part M pins: A13, B13
part N pins: A14, B14
part O pins: A15, B15
part P pins: A16, B16
part Q pins: A17, B17
part R pins: A18, B18
part S pins: A19, B19
part T pins: A20, B20
part U pins: A21, B21
part V pins: A22, B22
part W pins: A23, B23
part X pins: A24, B24
part Y pins: A25, B25
part Z pins: A26, B26
part 27 pins: A27, B27
part 28 pins: A28, B28
part 29 pins: A29, B29
part 30 pins: A30, B30
part 31 pins: A31, B31
part 32 pins: A32, B32
part 33 pins: A33, B33
part 34 pins: A34, B34
part 35 pins: A35, B35
part 36 pins: A36, B36
part 37 pins: A37, B37
part 38 pins: A38, B38
part 39 pins: A39, B39
part 40 pins: A40, B40
part 41 pins: A41, B41
part 42 pins: A42, B42
part 43 pins: A43, B43
part 44 pins: A44, B44
part 45 pins: A45, B45
part 46 pins: A46, B46
part 47 pins: A47, B47
part 48 pins: A48, B48
part 49 pins: A49, B49
part 50 pins: A50, B50
part A text: 1 of 50
part B text: 2 of 50
part C text: 3 of 50
part D text: 4 of 50
part E text: 5 of 50
part F text: 6 of 50
part G text: 7 of 50
part H text: 8 of 50
part I text: 9 of 50
part J text: 10 of 50
part K text: 11 of 50
part L text: 12 of 50
part M text: 13 of 50
part N text: 14 of 50
part O text: 15 of 50
part P text: 16 of 50
part Q text: 17 of 50
part R text: 18 of 50
part S text: 19 of 50
part T text: 20 of 50
part U text: 21 of 50
part V text: 22 of 50
part W text: 23 of 50
part X text: 24 of 50
part Y text: 25 of 50
part Z text: 26 of 50
part 27 text: 27 of 50
part 28 text: 28 of 50
part 29 text: 29 of 50
part 30 text: 30 of 50
part 31 text: 31 of 50
part 32 text: 32 of 50
part 33 text: 33 of 50
part 34 text: 34 of 50
part 35 text: 35 of 50
part 36 text: 36 of 50
part 37 text: 37 of 50
part 38 text: 38 of 50
part 39 text: 39 of 50
part 40 text: 40 of 50
part 41 text: 41 of 50
part 42 text: 42 of 50
part 43 text: 43 of 50
part 44 text: 44 of 50
part 45 text: 45 of 50
part 46 text: 46 of 50
part 47 text: 47 of 50
part 48 text: 48 of 50
part 49 text: 49 of 50
part 50 text: 50 of 50

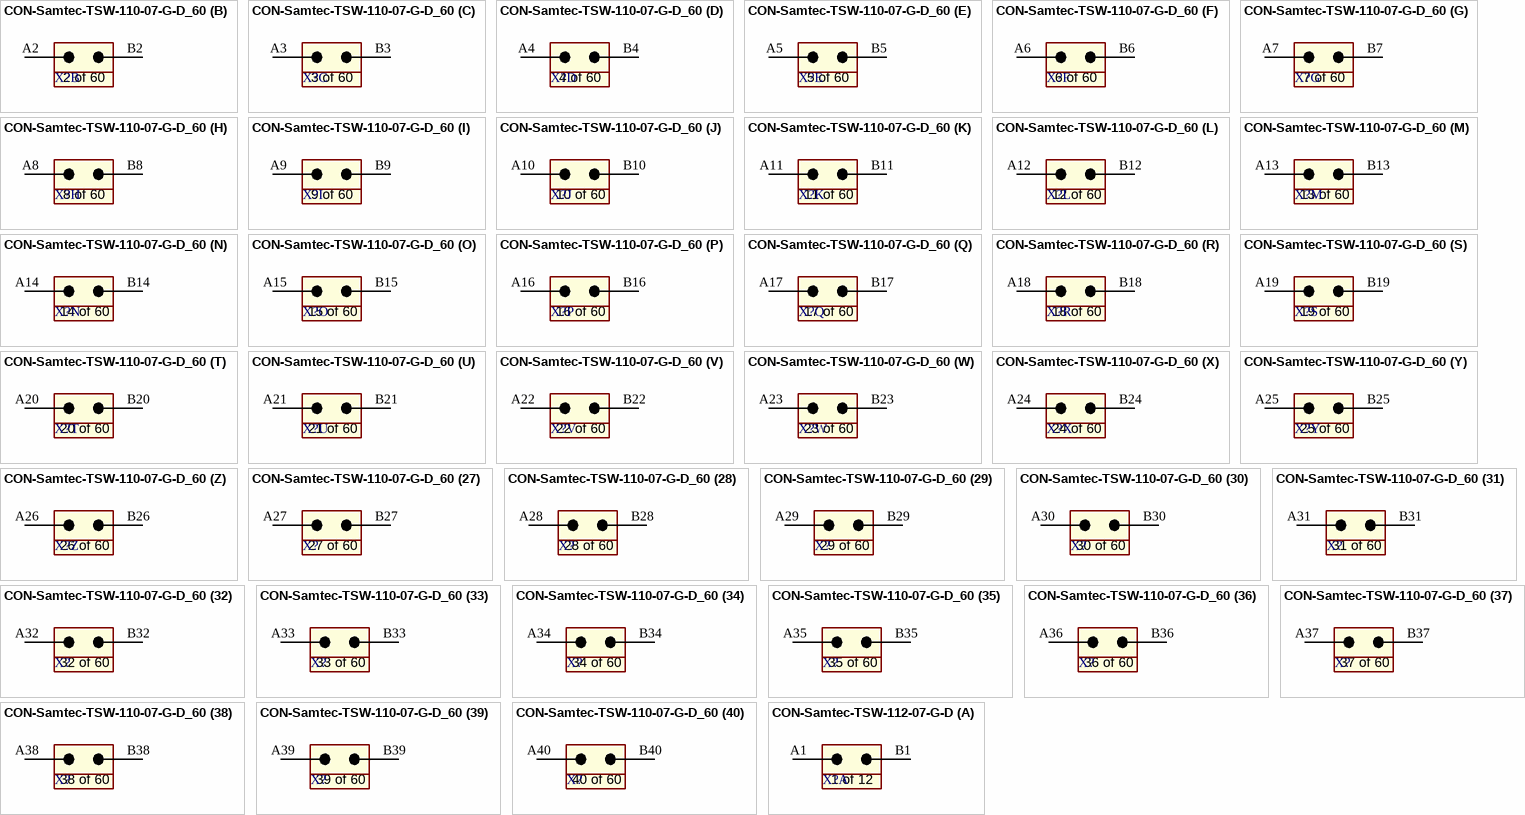
[diagram p12: symbols CON-Samtec-TSW-110-07-G-D_60 to CON-Samtec-TSW-112-07-G-D]

## CON-Samtec-TSW-110-07-G-D_60
designator X?, comment TSW-110-07-G-D  (value not drawn)
Header 2x60 pin 2.54mm pitch; Manufacturer Name: Samtec; Pitch: 2.54mm; No. of ways: 2x60; Manufacturer Part No.: TSW-110-07-G-D
footprint T_Samtec_TSW-110-07-G-D (Header 2x50 pin 2.54mm pitch)
part A pins: A1, B1
part B pins: A2, B2
part C pins: A3, B3
part D pins: A4, B4
part E pins: A5, B5
part F pins: A6, B6
part G pins: A7, B7
part H pins: A8, B8
part I pins: A9, B9
part J pins: A10, B10
part K pins: A11, B11
part L pins: A12, B12
part M pins: A13, B13
part N pins: A14, B14
part O pins: A15, B15
part P pins: A16, B16
part Q pins: A17, B17
part R pins: A18, B18
part S pins: A19, B19
part T pins: A20, B20
part U pins: A21, B21
part V pins: A22, B22
part W pins: A23, B23
part X pins: A24, B24
part Y pins: A25, B25
part Z pins: A26, B26
part 27 pins: A27, B27
part 28 pins: A28, B28
part 29 pins: A29, B29
part 30 pins: A30, B30
part 31 pins: A31, B31
part 32 pins: A32, B32
part 33 pins: A33, B33
part 34 pins: A34, B34
part 35 pins: A35, B35
part 36 pins: A36, B36
part 37 pins: A37, B37
part 38 pins: A38, B38
part 39 pins: A39, B39
part 40 pins: A40, B40
part 41 pins: A41, B41
part 42 pins: A42, B42
part 43 pins: A43, B43
part 44 pins: A44, B44
part 45 pins: A45, B45
part 46 pins: A46, B46
part 47 pins: A47, B47
part 48 pins: A48, B48
part 49 pins: A49, B49
part 50 pins: A50, B50
part 51 pins: A51, B51
part 52 pins: A52, B52
part 53 pins: A53, B53
part 54 pins: A54, B54
part 55 pins: A55, B55
part 56 pins: A56, B56
part 57 pins: A57, B57
part 58 pins: A58, B58
part 59 pins: A59, B59
part 60 pins: A60, B60
part A text: 1 of 60
part B text: 2 of 60
part C text: 3 of 60
part D text: 4 of 60
part E text: 5 of 60
part F text: 6 of 60
part G text: 7 of 60
part H text: 8 of 60
part I text: 9 of 60
part J text: 10 of 60
part K text: 11 of 60
part L text: 12 of 60
part M text: 13 of 60
part N text: 14 of 60
part O text: 15 of 60
part P text: 16 of 60
part Q text: 17 of 60
part R text: 18 of 60
part S text: 19 of 60
part T text: 20 of 60
part U text: 21 of 60
part V text: 22 of 60
part W text: 23 of 60
part X text: 24 of 60
part Y text: 25 of 60
part Z text: 26 of 60
part 27 text: 27 of 60
part 28 text: 28 of 60
part 29 text: 29 of 60
part 30 text: 30 of 60
part 31 text: 31 of 60
part 32 text: 32 of 60
part 33 text: 33 of 60
part 34 text: 34 of 60
part 35 text: 35 of 60
part 36 text: 36 of 60
part 37 text: 37 of 60
part 38 text: 38 of 60
part 39 text: 39 of 60
part 40 text: 40 of 60
part 41 text: 41 of 60
part 42 text: 42 of 60
part 43 text: 43 of 60
part 44 text: 44 of 60
part 45 text: 45 of 60
part 46 text: 46 of 60
part 47 text: 47 of 60
part 48 text: 48 of 60
part 49 text: 49 of 60
part 50 text: 50 of 60
part 51 text: 51 of 60
part 52 text: 52 of 60
part 53 text: 53 of 60
part 54 text: 54 of 60
part 55 text: 55 of 60
part 56 text: 56 of 60
part 57 text: 57 of 60
part 58 text: 58 of 60
part 59 text: 59 of 60
part 60 text: 60 of 60

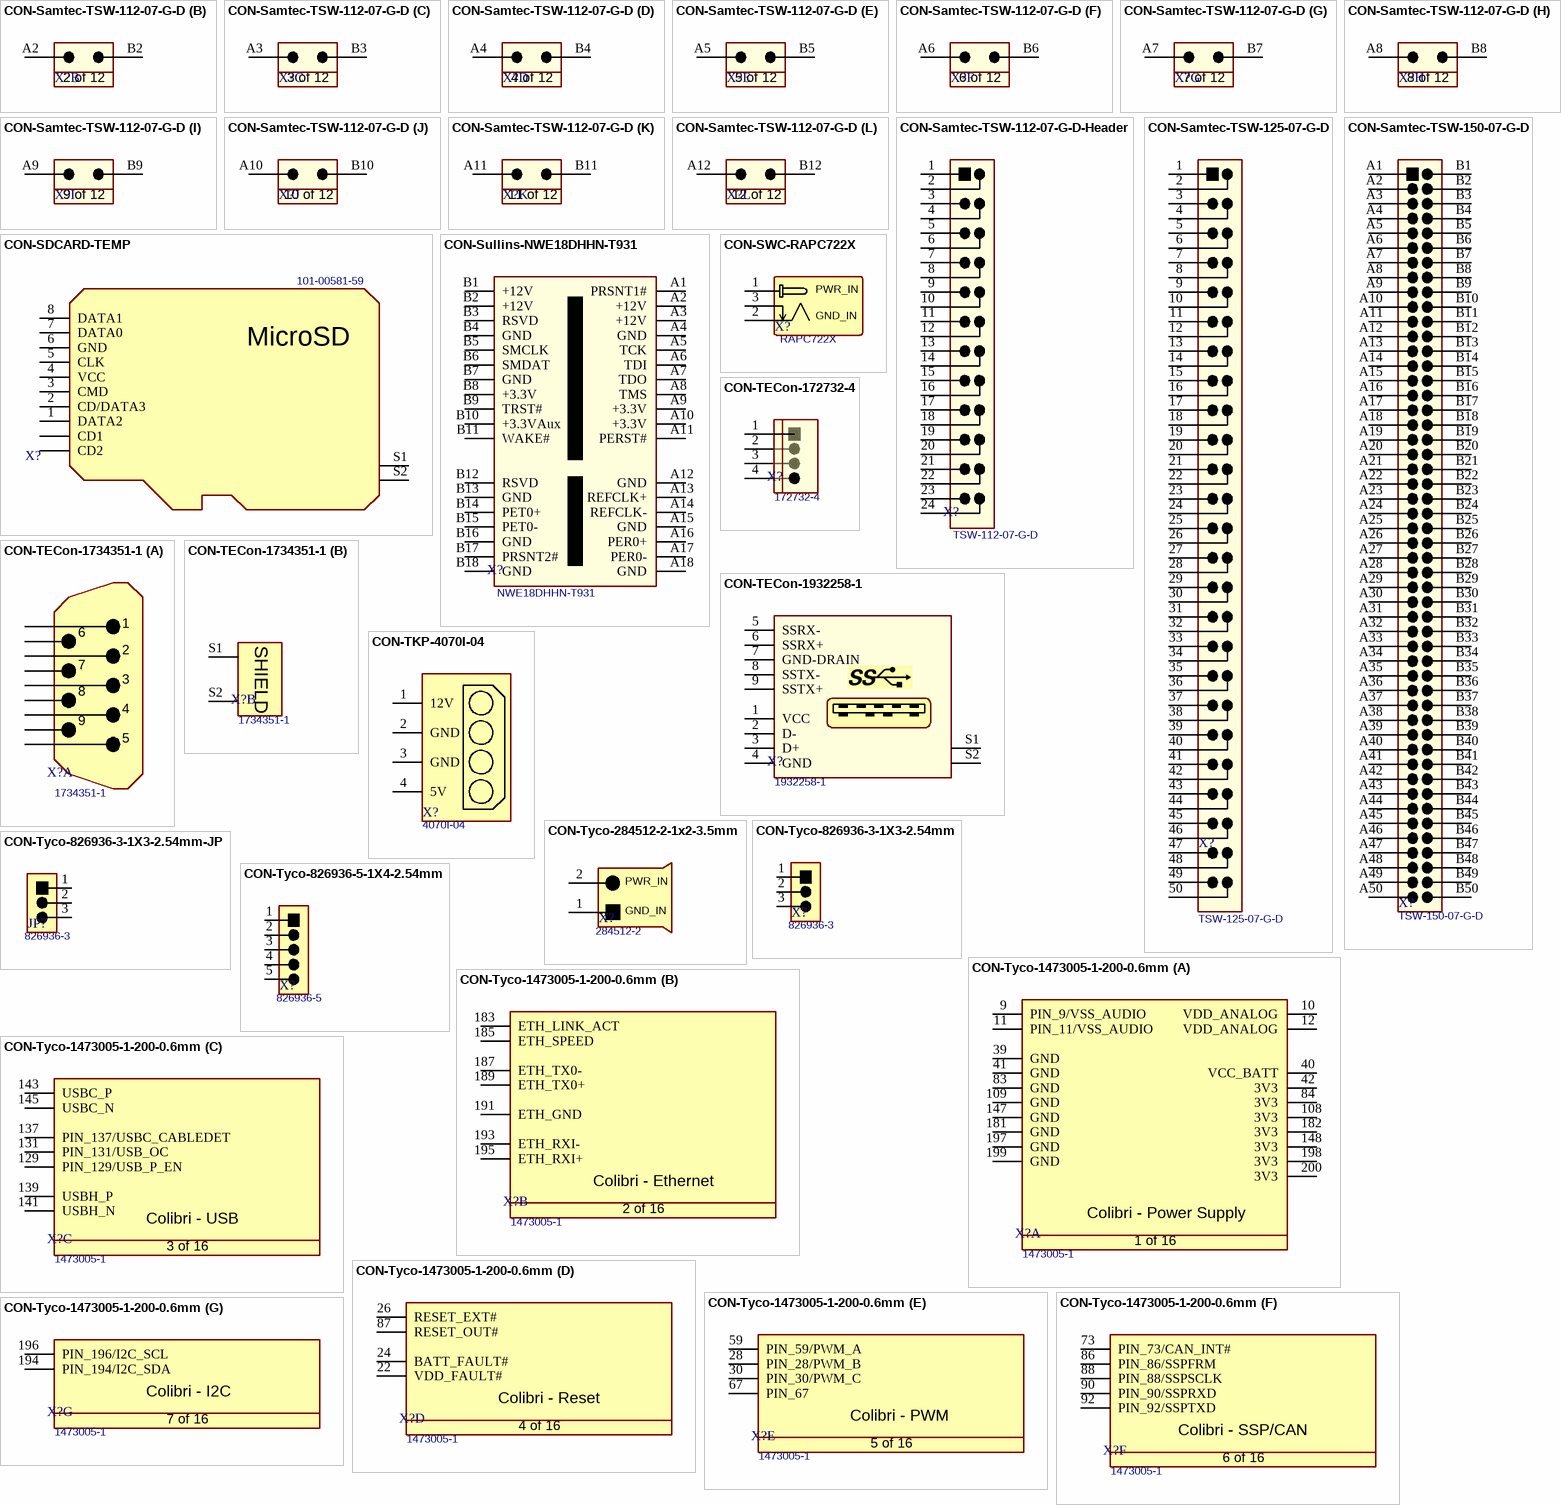
[diagram p13: symbols CON-Samtec-TSW-112-07-G-D to CON-Tyco-1473005-1-200-0.6mm]

## CON-Samtec-TSW-112-07-G-D
designator X?, comment TSW-112-07-G-D  (value not drawn)
Header 2x12 pin 2.54mm pitch; Manufacturer Name: Samtec; Pitch: 2.54mm; No. of ways: 2x12; Manufacturer Part No.: TSW-112-07-G-D
footprint T_Samtec_TSW-112-07-G-D (Header, 2x12 Pins, 2.54 mm pitch, male)
part A pins: A1, B1
part B pins: A2, B2
part C pins: A3, B3
part D pins: A4, B4
part E pins: A5, B5
part F pins: A6, B6
part G pins: A7, B7
part H pins: A8, B8
part I pins: A9, B9
part J pins: A10, B10
part K pins: A11, B11
part L pins: A12, B12
part A text: 1 of 12
part B text: 2 of 12
part C text: 3 of 12
part D text: 4 of 12
part E text: 5 of 12
part F text: 6 of 12
part G text: 7 of 12
part H text: 8 of 12
part I text: 9 of 12
part J text: 10 of 12
part K text: 11 of 12
part L text: 12 of 12

## CON-Samtec-TSW-112-07-G-D-Header
designator X?, comment TSW-112-07-G-D
Header male, 2x12 Pins, 2.54 mm pitch; Manufacturer Name: Samtec; Pitch: 2.54 mm; No. of ways: 2x12; Manufacturer Part No.: TSW-112-07-G-D
footprint T_Samtec_TSW-112-07-G-D-HEADER (Footprint not found)
pins: 1, 2, 3, 4, 5, 6, 7, 8, 9, 10, 11, 12, 13, 14, 15, 16, 17, 18, 19, 20, 21, 22, 23, 24

## CON-Samtec-TSW-125-07-G-D
designator X?, comment TSW-125-07-G-D
Header, 2x25 Pins, 2.54 mm pitch; Manufacturer Name: Samtec; Pitch: 2.54mm; No. of ways: 2x25; Manufacturer Part No.: TSW-125-07-G-D
footprint T_SAMTEC_TSW-125-07-G-D (Header, 2x25 Pins, 2.54 mm pitch)
pins: 1, 2, 3, 4, 5, 6, 7, 8, 9, 10, 11, 12, 13, 14, 15, 16, 17, 18, 19, 20, 21, 22, 23, 24, 25, 26, 27, 28, 29, 30, 31, 32, 33, 34, 35, 36, 37, 38, 39, 40, 41, 42, 43, 44, 45, 46, 47, 48, 49, 50

## CON-Samtec-TSW-150-07-G-D
designator X?, comment TSW-150-07-G-D
Header 2x50 pin 2.54mm pitch; Manufacturer Name: Samtec; No. of ways: 2x10; Pitch: 2.54mm; Manufacturer Part No.: TSW-150-07-G-D
footprint T_Samtec_TSW-150-07-G-D (Header 2x50 pin 2.54mm pitch)
pins: A1, A2, A3, A4, A5, A6, A7, A8, A9, A10, A11, A12, A13, A14, A15, A16, A17, A18, A19, A20, A21, A22, A23, A24, A25, A26, A27, A28, A29, A30, A31, A32, A33, A34, A35, A36, A37, A38, A39, A40, A41, A42, A43, A44, A45, A46, A47, A48, A49, A50, B1, B2, B3, B4, B5, B6, B7, B8, B9, B10, B11, B12, B13, B14, B15, B16, B17, B18, B19, B20, B21, B22, B23, B24, B25, B26, B27, B28, B29, B30, B31, B32, B33, B34, B35, B36, B37, B38, B39, B40, B41, B42, B43, B44, B45, B46, B47, B48, B49, B50

## CON-SDCARD-TEMP
designator X?, comment Manufacturer Part No.: 101-00581-59  (hidden comment: MicroSD Holder)
Micro SD Holder Push Push CD; Manufacturer Name: Ampenol; No. of ways: 9
footprint T_SD_CARD_TEMP
pins: 1 DATA2 (power), 2 CD/DATA3, 3 CMD, 4 VCC, 5 CLK (power), 6 GND (power), 7 DATA0 (power), 8 DATA1 (power), CD1 (power), CD2 (power), S1 S, S2 S
text: MicroSD

## CON-Sullins-NWE18DHHN-T931
designator X?, comment NWE18DHHN-T931
PCI EXPRESS 36POS; Manufacturer Name: Sullins; No. of ways: 36; Manufacturer Part No.: NWE18DHHN-T931
footprint T_Sullins_NWE18DHHN-T931 (PCIe X1 Slot)
pins: A1 PRSNT1#, A2 +12V, A3 +12V, A4 GND, A5 TCK, A6 TDI, A7 TDO, A8 TMS, A9 +3.3V, A10 +3.3V, A11 PERST#, A12 GND, A13 REFCLK+, A14 REFCLK-, A15 GND, A16 PER0+, A17 PER0-, A18 GND, B1 +12V, B2 +12V, B3 RSVD, B4 GND, B5 SMCLK, B6 SMDAT, B7 GND, B8 +3.3V, B9 TRST#, B10 +3.3VAux, B11 WAKE#, B12 RSVD, B13 GND, B14 PET0+, B15 PET0-, B16 GND, B17 PRSNT2#, B18 GND

## CON-SWC-RAPC722X
designator X?, comment RAPC722X
Power Jack; Manufacturer Name: SWC; Manufacturer Part No.: RAPC722X
footprint T_DCJ20-0014TB-L (Header, 1x2 Pins, 2.54 mm pitch, male)
pins: 1 GND_IN, 2 PWR_IN, 3 PWR_IN

## CON-TECon-172732-4
designator X?, comment 172732-4
Header 4 pos Vert Kink Pin; Manufacturer Name: TE Connectivity; No. of ways: 4; Manufacturer Part No.: 172732-4
footprint T_TE_172732-4 (Header vertical with kink, 1x4 Pins, 2.54mm pitch)
pins: 1 12V (power), 2 GND, 3 GND, 4 5V (power)

## CON-TECon-1734351-1
designator X?, comment 1734351-1
9 pin male D-SUB connector; Manufacturer Name: TE Connectivity; No. of ways: 9; Manufacturer Part No.: 1734351-1
footprint T_TECon_1734351-1 (9 pin male D-SUB connector)
part A pins: 1 DCD, 2 RXD, 3 TXD, 4 DTR, 5 GND, 6 DSR, 7 RTS, 8 CTS, 9 RI
part B pins: S1 SHIELD, S2 SHIELD

## CON-TECon-1932258-1
designator X?, comment 1932258-1
USB 3.0, Type A; Manufacturer Name: TE Connectivity; No. of ways: 9; Manufacturer Part No.: 1932258-1
footprint T_TE_1932258-1 (USB 3.0, Type A)
pins: 1 VCC (power), 2 D-, 3 D+, 4 GND (power), 5 SSRX- (power), 6 SSRX+ (power), 7 GND-DRAIN (power), 8 SSTX- (power), 9 SSTX+ (power), S1 SHIELD, S2 SHIELD